# Altium schematic symbol library connector.SchLib: 104 symbols
Pins are listed as number, name and electrical type; pins without a type are passive.

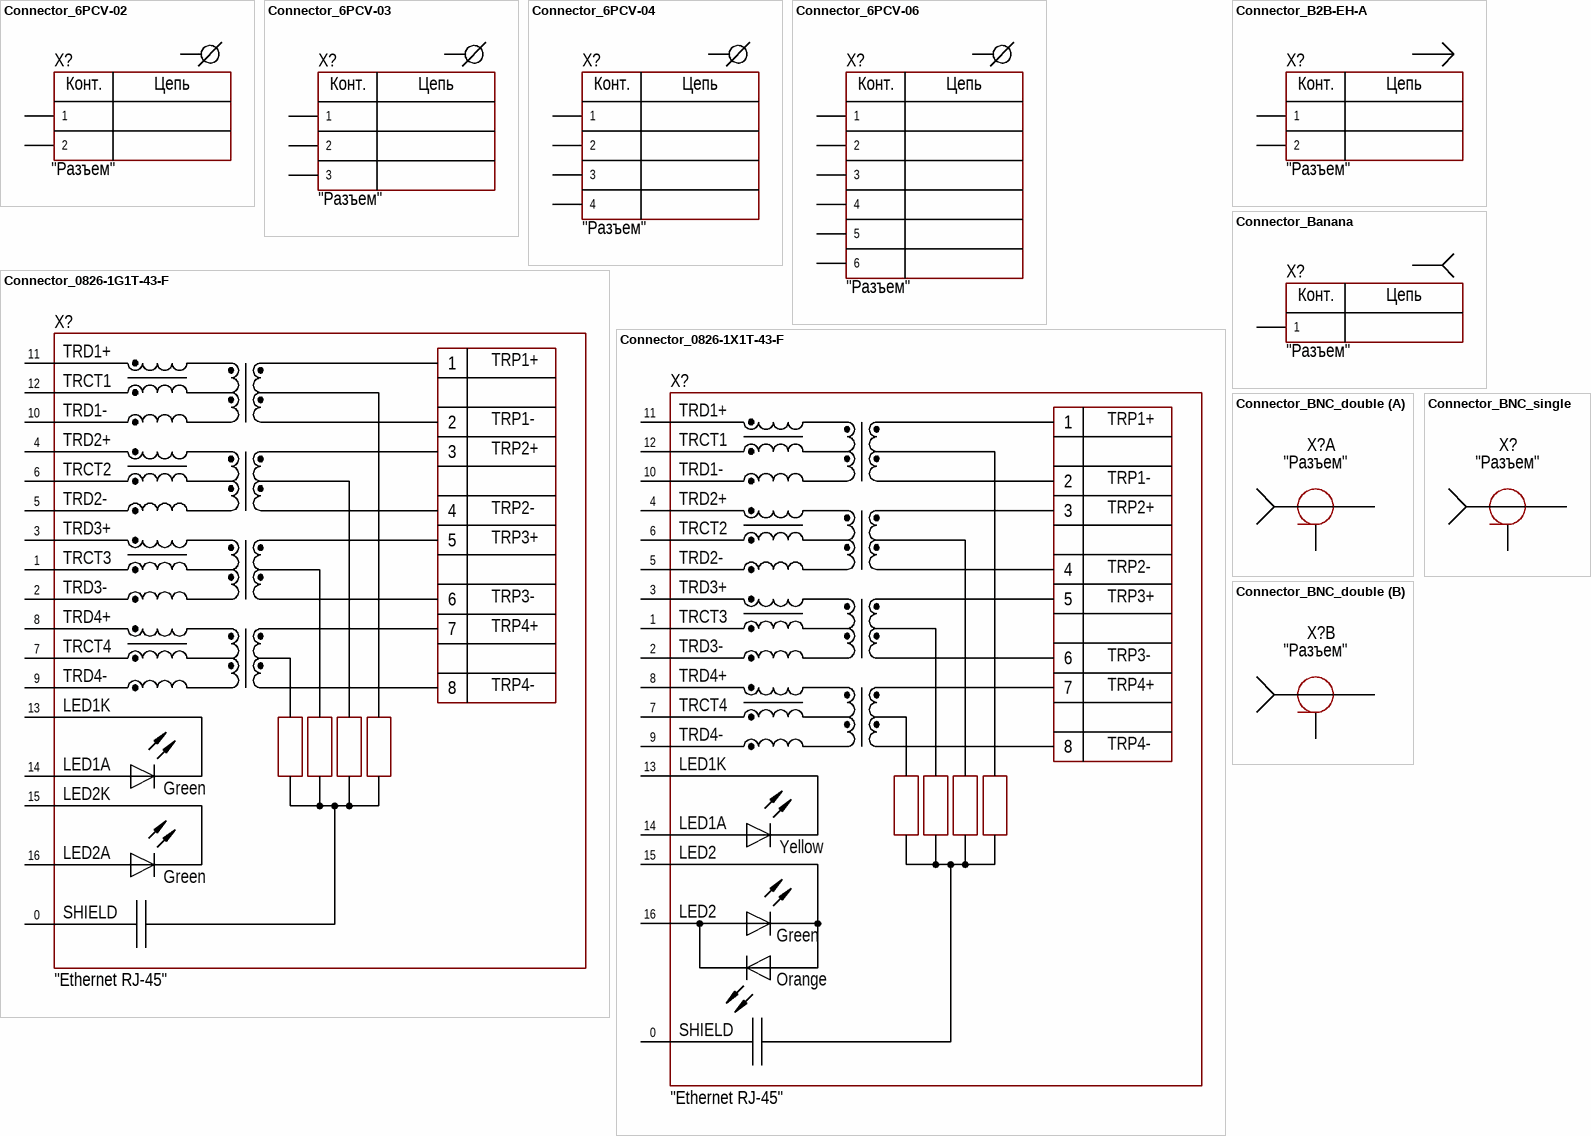
[diagram p0: symbols Connector_6PCV-02 to Connector_BNC_single]

## Connector_6PCV-02
designator X?  CommentText: "Разъем"
Manufacturer: TE Connectivity; ValueManufacturerPartNumber: Connector, 2pin, 9.53mm, 300VAC, 25A; PartNumber: 6PCV-02-006; TypeConnector: Connector; VoltageMax: 300VAC; Pitch: 9.53mm; CurrentMax: 25A; Multichannel: 2pin; HelpURL: https://www.digikey.com/products/en?keywords=6PCV-02-006
footprint CON: 6PCV-02-006
pins: 1, 2
text: Конт.; Цепь

## Connector_6PCV-03
designator X?  CommentText: "Разъем"
Manufacturer: TE Connectivity; ValueManufacturerPartNumber: Connector, 3pin, 9.53mm, 300VAC, 25A; PartNumber: 6PCV-03-006; TypeConnector: Connector; VoltageMax: 300VAC; Pitch: 9.53mm; CurrentMax: 25A; Multichannel: 3pin; HelpURL: https://www.digikey.com/products/en?keywords=6PCV-03-006
footprint CON: 6PCV-03-006
pins: 1, 2, 3 (power)
text: Конт.; Цепь

## Connector_6PCV-04
designator X?  CommentText: "Разъем"
Manufacturer: TE Connectivity; ValueManufacturerPartNumber: Connector, 4pin, 9.53mm, 300VAC, 25A; PartNumber: 6PCV-04-006; TypeConnector: Connector; VoltageMax: 300VAC; Pitch: 9.53mm; CurrentMax: 25A; Multichannel: 4pin; HelpURL: https://www.digikey.com/products/en?keywords=6PCV-03-006
footprint CON: 6PCV-04-006
pins: 1, 2, 3 (power), 4 (power)
text: Конт.; Цепь

## Connector_6PCV-06
designator X?  CommentText: "Разъем"
Manufacturer: TE Connectivity; ValueManufacturerPartNumber: Connector, 6pin, 9.53mm, 300VAC, 25A; PartNumber: 6PCV-06-006; TypeConnector: Connector; VoltageMax: 300VAC; Pitch: 9.53mm; CurrentMax: 25A; Multichannel: 6pin; HelpURL: https://www.digikey.com/product-detail/en/te-connectivity-amp-connectors/6PCV-06-006/A98485-ND/1277937
footprint CON: 6PCV-06-006
pins: 1, 2, 3 (power), 4 (power), 5 (power), 6 (power)
text: Конт.; Цепь

## Connector_0826-1G1T-43-F
designator X?  CommentText: "Ethernet RJ-45"
Manufacturer: Bel; ValueManufacturerPartNumber: Etherner RJ-45 connector; PartNumber: 0826-1G1T-43-F; FunctionalAnalog: LPJK0036AWNL; HelpURL: https://eu.mouser.com/ProductDetail/Bel-Magnetic-Solutions/0826-1G1T-43-F?qs=5aG0NVq1C4xChU%2FEu3jD0g%3D%3D; TypeConnector: Etherner RJ-45 connector
footprint RJ45_BEL_0826-1G1T-43-F (1 Port, Green/Green LEDs, RJ45 10/100/1000 Gigabit Ethernet, MagJack Connector Module)
pins: 0 SHIELD (power), 1 TRCT3, 2 TRD3-, 3 TRD3+, 4 TRD2+, 5 TRD2-, 6 TRCT2, 7 TRCT4, 8 TRD4+, 9 TRD4-, 10 TRD1-, 11 TRD1+, 12 TRCT1, 13 LED1K, 14 LED1A, 15 LED2K, 16 LED2A
text: TRP1+; TRP1-; TRP2+; TRP2-; TRP3+; TRP3-; TRP4+; TRP4-; Green

## Connector_0826-1X1T-43-F
designator X?  CommentText: "Ethernet RJ-45"
Manufacturer: Bel; ValueManufacturerPartNumber: Etherner RJ-45 connector; PartNumber: 0826-1X1T-43-F; FunctionalAnalog: LPJK0036AONL; HelpURL: https://eu.mouser.com/ProductDetail/Bel-Magnetic-Solutions/0826-1X1T-43-F?qs=SRYZG9HaIQ1dosA3DyU8HQ%3D%3D; TypeConnector: Etherner RJ-45 connector
footprint RJ45_BEL_0826-1G1T-43-F (1 Port, Green/Green LEDs, RJ45 10/100/1000 Gigabit Ethernet, MagJack Connector Module)
pins: 0 SHIELD (power), 1 TRCT3, 2 TRD3-, 3 TRD3+, 4 TRD2+, 5 TRD2-, 6 TRCT2, 7 TRCT4, 8 TRD4+, 9 TRD4-, 10 TRD1-, 11 TRD1+, 12 TRCT1, 13 LED1K, 14 LED1A, 15 LED2, 16 LED2
text: TRP1+; TRP1-; TRP2+; TRP2-; TRP3+; TRP3-; TRP4+; TRP4-; Yellow; Green; Orange

## Connector_B2B-EH-A
designator X?  CommentText: "Разъем"
Manufacturer: JST; ValueManufacturerPartNumber: Connector, 2pin, 2.5 mm, 250V, 3A; PartNumber: B2B-EH-A; TypeConnector: Connector; VoltageMax: 250V; Pitch: 2.5 mm; CurrentMax: 3A; Multichannel: 2pin; HelpURL: https://www.digikey.com/product-detail/en/jst-sales-america-inc/B2B-EH-A-LF-SN/455-1611-ND/926520
footprint CON: B2B-EH-A
pins: 1, 2
text: Конт.; Цепь

## Connector_Banana
designator X?  CommentText: "Разъем"
Manufacturer: CLIFF; ValueManufacturerPartNumber: Connector, 4mm, Black, 1kV, 24A; PartNumber: FCR7350B; TypeConnector: Connector; VoltageMax: 1kV; CurrentMax: 24A; HelpURL: https://www.cliffuk.co.uk/products/testleads/sockets/fcr7350.pdf; Colour: Black; Diameter: 4mm
footprint CLIFF_FCR7350B (CLIFF Black Insulated Ш 4mm Angled Socket S16N-PC For Banana 4mm)
footprint CLIFF_FCR7350R (CLIFF Red Insulated Ш 4mm Angled Socket S16N-PC For Banana 4mm)
footprint MULTI-CONTACT_23.3200-21 (MULTI-CONTACT Black Insulated Ш 4mm Angled Socket SLB4-I/90 For Banana 4mm)
footprint MULTI-CONTACT_23.3200-22 (Multi-Contact Red Insulated Ш 4mm Angled Socket SLB4-I/90 For Banana 4mm)
footprint SCHUETZINGER_SWEB 8094 Au - BL (Blue Insulated Ш 4mm Angled Socket For Banana 4mm)
footprint SCHUETZINGER_SWEB 8094 Au - RT (Red Insulated Ш 4mm Angled Socket For Banana 4mm)
footprint SCHUETZINGER_SWEB 8094 Au - SW (Black Insulated Ш 4mm Angled Socket For Banana 4mm)
pins: 1
text: Конт.; Цепь

## Connector_BNC_double
designator X?  CommentText: "Разъем"
Manufacturer: Amphenol; ValueManufacturerPartNumber: BNC Double Jack (Socket) connector, 50 Ohms, 1GHz; PartNumber: 031-6575; TypeConnector: BNC Double Jack (Socket) connector; Frequency: 1GHz; Impedance: 50 Ohms; HelpURL: https://www.mouser.com/ProductDetail/Amphenol-RF/031-6575?qs=y2kkmE52mdPXgCJnw9jEhw%3D%3D
footprint BNC_AMPHENOL_031-6575 (Dual Port  Right Angle 50 Ohms Isolated BNC Receptacle (Jack))
part A pins: 1, 2
part B pins: 3, 4

## Connector_BNC_single
designator X?  CommentText: "Разъем"
Manufacturer: TE Connectivity; ValueManufacturerPartNumber: BNC Jack (Socket) connector, 50 Ohms, 4GHz; PartNumber: 1-1337542-0; TypeConnector: BNC Jack (Socket) connector; Frequency: 4GHz; Impedance: 50 Ohms; HelpURL: https://www.mouser.com/ProductDetail/TE-Connectivity/1-1337542-0?qs=sXy4Dx%2FMQpMocRviGTeswA%3D%3D
footprint BNC_AMPHENOL_31-5329 (50 Ohm BNC PCB Receptacle (Jack), Post Terminal, 3 Legs)
footprint BNC_AMPHENOL_34-1030-12G (75 Ohm HD-BNC Through Hole Right Angle PCB Jack)
footprint BNC_AMPHENOL_B6251F1-NT3G-75 (75 Ohm HD-BNC Through Hole Straight PCB Jack)
footprint BNC_TYCO_1-1337541-0 (50 Ohms  BNC Elbow PCB Socket With Mounting Posts)
footprint BNC_TYCO_1-1337542-0 (50 Ohms  BNC Elbow PCB Socket With Mounting Posts)
footprint BNC_TYCO_5-1634503-1 (Low Profile Straight 50 Ohm BNC PCB Socket)
footprint BNC_TYCO_5-1634506-1 (50 Ohm BNC PCB Receptacle (Jack), Post Terminal, 4 Legs)
footprint BNC_TYCO_5-1634513-1 (Low Profile Elbow 50 Ohm BNC PCB Socket)
footprint BNC_TYCO_5-1634556-0 (Right Angle Bulkhead 75 Ohms BNC)
footprint BNC_TYCO_5227222-3 (50 Ohms , BNC Vertical Socket)
footprint BNC_TYCO_5227673-1 (50 Ohms , BNC Vertical Socket)
pins: 1, 2

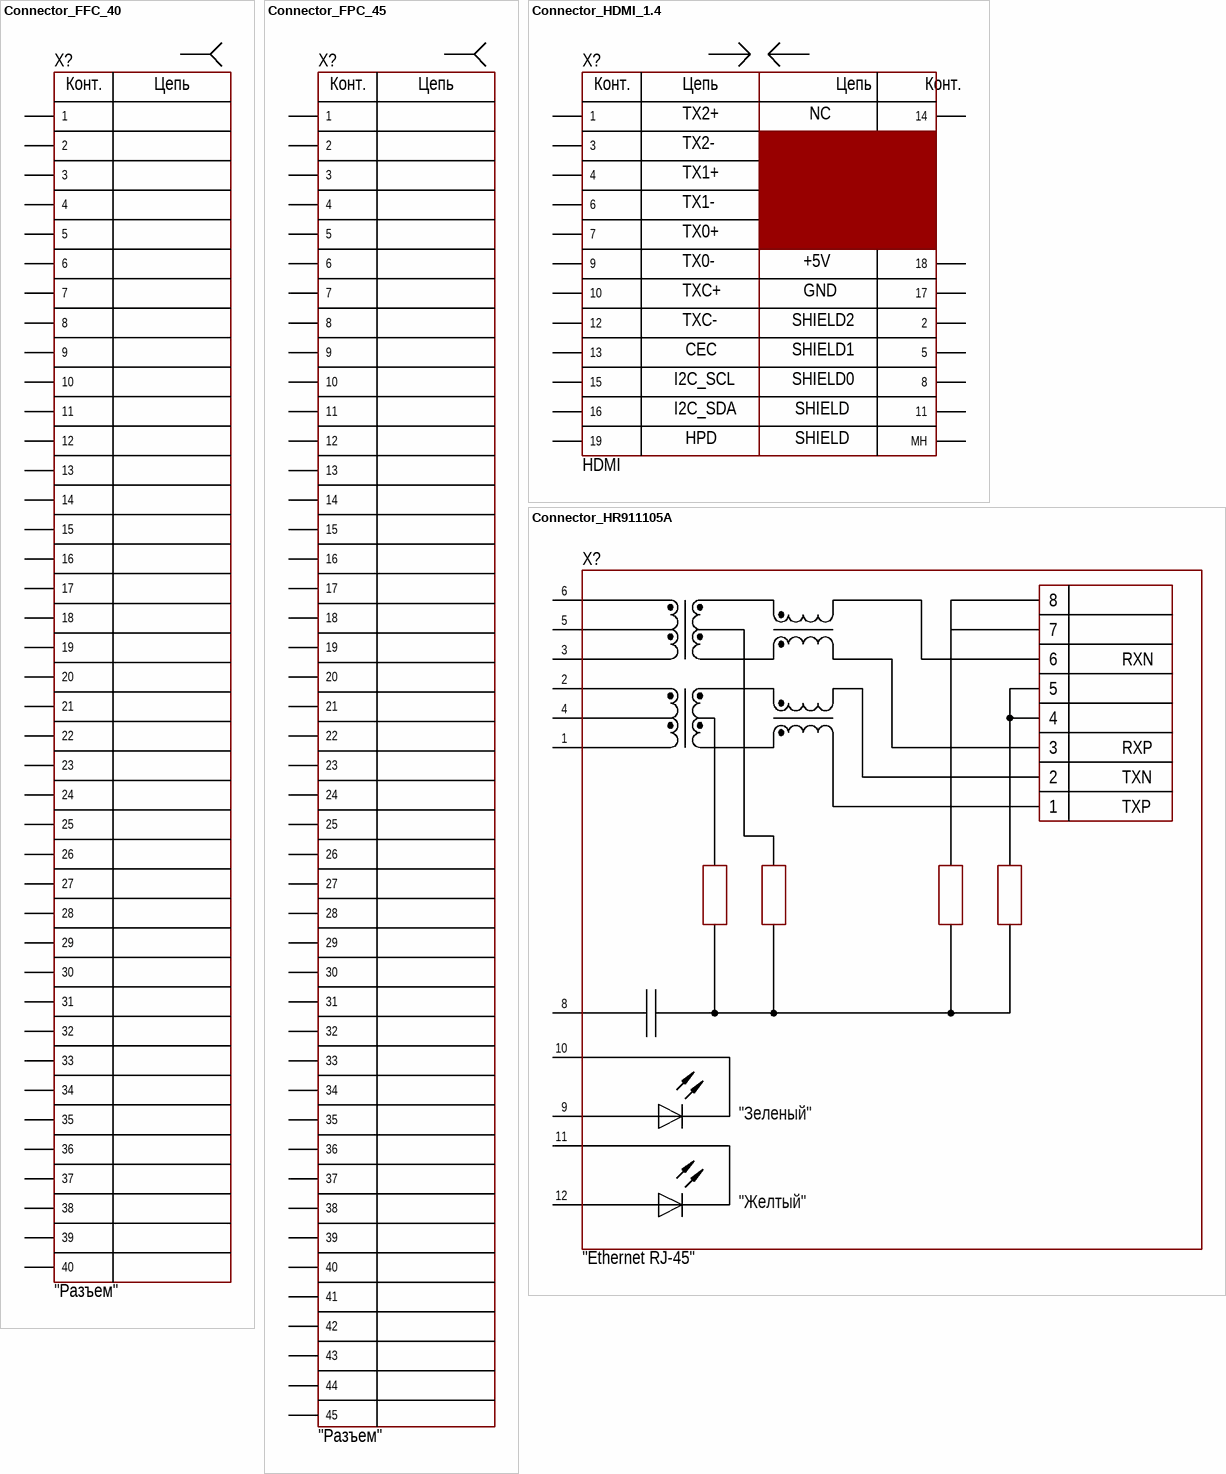
[diagram p1: symbols Connector_FFC_40 to Connector_HR911105A]

## Connector_FFC_40
designator X?  CommentText: "Разъем"
Manufacturer: JUSHUO; ValueManufacturerPartNumber: Connector, 40pin, 0.5mm, FFC/FPC, Top contact; PartNumber: AFC07-S40ECC-00; TypeConnector: Connector; VoltageMax: FFC/FPC; Pitch: 0.5mm; CurrentMax: Top contact; Multichannel: 40pin; HelpURL: https://lcsc.com/product-detail/FFC-FPC-Connectors_JUSHUO-AFC07-S40ECC-00_C11097.html
footprint CON: FFC/FPC-40-0.5
pins: 1, 2, 3, 4, 5, 6, 7, 8, 9, 10, 11, 12, 13, 14, 15, 16, 17, 18, 19, 20, 21, 22, 23, 24, 25, 26, 27, 28, 29, 30, 31, 32, 33, 34, 35, 36, 37, 38, 39, 40
text: Конт.; Цепь

## Connector_FPC_45
designator X?  CommentText: "Разъем"
Manufacturer: HIROSE; ValueManufacturerPartNumber: FPC/FFC, 45pin, 0.3mm; PartNumber: FH35C-45S-0.3SHW(50); TypeConnector: FPC/FFC; Pitch: 0.3mm; Multichannel: 45pin; HelpURL: https://www.hirose.com/product/p/CL0580-2909-6-50?lang=en
footprint CON: FH35C-45S-0.3SHW(FPC-45)
pins: 1, 2, 3, 4, 5, 6, 7, 8, 9, 10, 11, 12, 13, 14, 15, 16, 17, 18, 19, 20, 21, 22, 23, 24, 25, 26, 27, 28, 29, 30, 31, 32, 33, 34, 35, 36, 37, 38, 39, 40, 41, 42, 43, 44, 45
text: Конт.; Цепь

## Connector_HDMI_1.4
designator X?  CommentText: HDMI
Manufacturer: Amphenol; ValueManufacturerPartNumber: HDMI 1.4; PartNumber: 10029449-111RLF; HelpURL: https://www.digikey.com/en/products/detail/amphenol-icc-fci/10029449-111RLF/2785386; TypeConnector: HDMI 1.4
footprint HDMI_A_AMP_10029449-111RLF (HDMI 1.4, Amphenol)
pins: 1, 2, 3, 4, 5, 6, 7, 8, 9, 10, 11, 12, 13, 14, 15, 16, 17, 18, 19, MH
text: Конт.; Цепь; TX2+; NC; TX2-; TX1+; TX1-; TX0+; TX0-; +5V; TXC+; GND; TXC-; SHIELD2; CEC; SHIELD1; I2C_SCL; SHIELD0; I2C_SDA; SHIELD; HPD

## Connector_HR911105A
designator X?  CommentText: "Ethernet RJ-45"
Manufacturer: Hanrun; ValueManufacturerPartNumber: Etherner RJ-45 connector; PartNumber: HR911105A; HelpURL: https://ru.aliexpress.com/item/32244614847.html?spm=a2g0v.search0104.3.9.304d24e7qb4B5g&ws_ab_test=searchweb0_0%2Csearchweb201602_10_10065_10068_319_317_10696_453_10084_454_10083_10618_10307_10301_537_536_10059_10884_10887_321_322_10915_10103_10914_10911_10910%2Csearchweb201603_52%2CppcSwitch_0&algo_expid=ad591376-da58-472d-83c6-21bacd43ef2b-1&algo_pvid=ad591376-da58-472d-83c6-21bacd43ef2b&transAbTest=ae803_5; TypeConnector: Etherner RJ-45 connector
footprint CON: HR911105A
pins: 1 TD+, 2 TD-, 3 RD+, 4 CT, 5 CT, 6 RD-, 8 GND, 9 D2, 10 D1, 11 D3, 12 D4
text: 7; RXN; RXP; TXN; TXP; "Зеленый"; "Желтый"

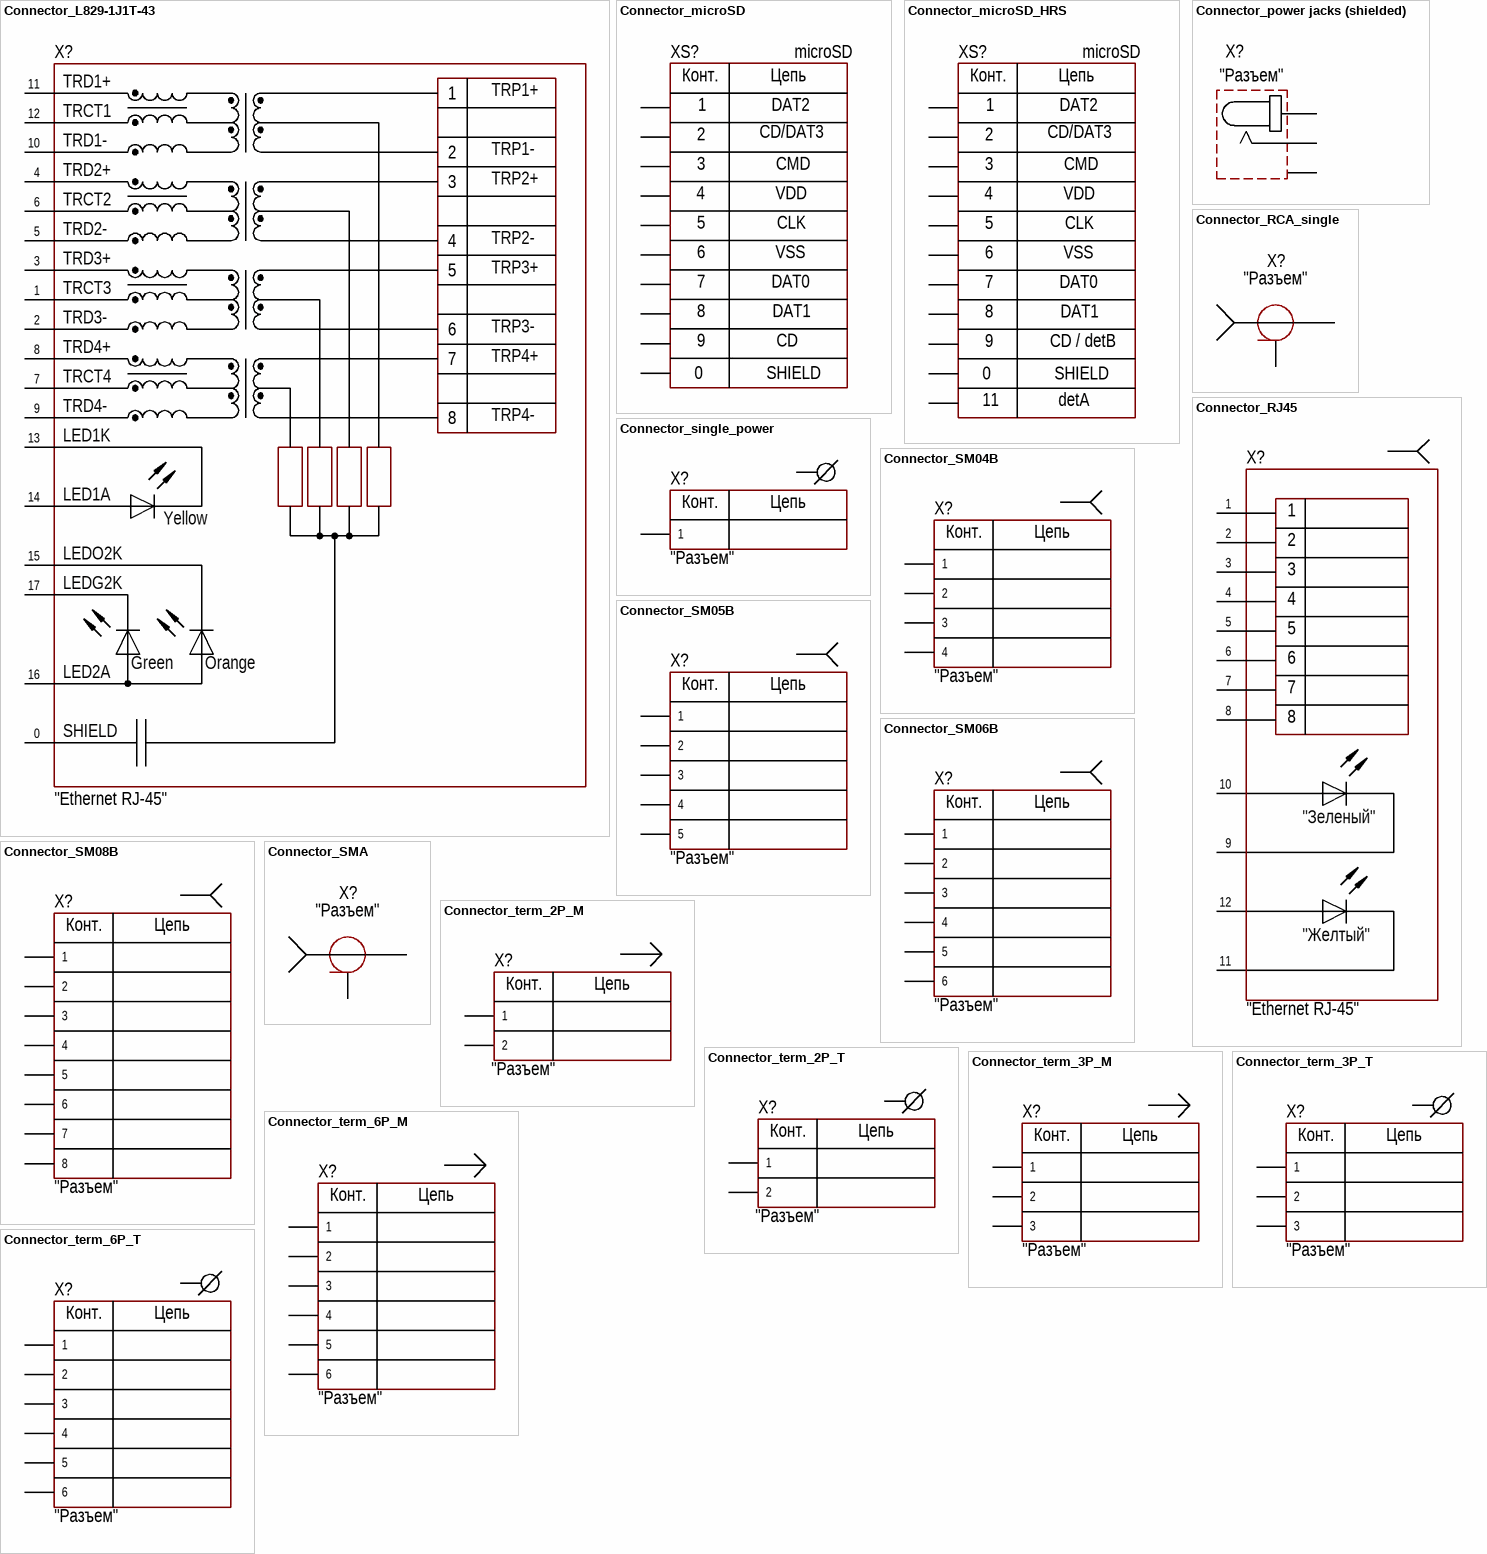
[diagram p2: symbols Connector_L829-1J1T-43 to Connector_term_6P_T]

## Connector_L829-1J1T-43
designator X?  CommentText: "Ethernet RJ-45"
Manufacturer: Bel; ValueManufacturerPartNumber: Etherner RJ-45 connector; PartNumber: L829-1J1T-43; FunctionalAnalog: LPJK7036A98NL; HelpURL: https://eu.mouser.com/ProductDetail/Bel-Magnetic-Solutions/L829-1J1T-43?qs=FESYatJ8odLVQdREzuXXBw%3D%3D; TypeConnector: Etherner RJ-45 connector
footprint RJ45_BEL_L829-1J1T-43 (1 Port, Yellow/Green-Orange LEDs, Gigabit Ethernet, MagJack Connector Module)
pins: 0 SHIELD (power), 1 TRCT3, 2 TRD3-, 3 TRD3+, 4 TRD2+, 5 TRD2-, 6 TRCT2, 7 TRCT4, 8 TRD4+, 9 TRD4-, 10 TRD1-, 11 TRD1+, 12 TRCT1, 13 LED1K, 14 LED1A, 15 LEDO2K, 16 LED2A, 17 LEDG2K
text: TRP1+; TRP1-; TRP2+; TRP2-; TRP3+; TRP3-; TRP4+; TRP4-; Yellow; Green; Orange

## Connector_microSD
designator XS?  CommentText: microSD
ValueManufacturerPartNumber: MicroSD; TypeConnector: MicroSD
footprint CON:MICROSD:HYC77TF09200
pins: 0 SHIELD, 1 DAT2, 2 CD/DAT3, 3 CMD, 4 VDD, 5 CLK, 6 VSS, 7 DAT0, 8 DAT1, 9 CD
text: Конт.; Цепь

## Connector_microSD_HRS
designator XS?  CommentText: microSD
Manufacturer: Hirose; PartNumber: DM3AT-SF-PEJM5; TypeConnector: MicroSD
footprint CON:MICROSD:DM3AT-SF-PEJM5; pin to pad 0>SH 9>detB 11>detA
pins: 0 SHIELD, 1 DAT2, 2 CD/DAT3, 3 CMD, 4 VDD, 5 CLK, 6 VSS, 7 DAT0, 8 DAT1, 9 CD, 11 SHIELD
text: Конт.; Цепь; CD / detB; detA

## Connector_power jacks (shielded)
designator X?  CommentText: "Разъем"
Manufacturer: CUI Devices; ValueManufacturerPartNumber: Connector jack, 8A, 24V, 2.50mm ID (0.098"), 5.50mm OD (0.217"); PartNumber: PJ-063BH; TypeConnector: Connector jack; Current: 8A; Voltage: 24V; HelpURL: https://www.digikey.com/en/products/detail/cui-devices/PJ-063BH/2161209?s=N4IgTCBcDaIAoCkC0AGAbAZgEIAkQF0BfIA; Diameter: 2.50mm ID (0.098"), 5.50mm OD (0.217")
footprint PG_CUI_PJ-063
pins: 0, 1, 2

## Connector_RCA_single
designator X?  CommentText: "Разъем"
RCA jack; Manufacturer: Aec Connectors; PartNumber: RJ-203GG-TEF; Impedance: 75 Ohm; HelpURL: https://www.aecconnectors.com.tw/en/product-33918/RCA-JACKS-RJ-203GG-TEF.html; ValueManufacturerPartNumber: =TypeConnector+', '+Impedance+', '+Frequency; TypeConnector: RCA jack
footprint RCA_AEC_RJ-203
footprint RCA_AEC_RJ-255BKPLG
pins: 1, 2

## Connector_RJ45
designator X?  CommentText: "Ethernet RJ-45"
Manufacturer: Wurth; ValueManufacturerPartNumber: Etherner RJ-45 connector; PartNumber: 615008137421; AnalogComponent: DS1128-09-S8B8S (Connfly); HelpURL: https://www.digikey.com/product-detail/en/w-rth-elektronik/615008137421/732-2112-ND/2060608; TypeConnector: Etherner RJ-45 connector
footprint CON: RJ-45 (615008137421 / DS1128-09-S8B8S)
pins: 1 D2, 2 D2, 3 D2, 4 D2, 5 D2, 6 D2, 7 D2, 8 D2, 9 D2, 10 D1, 11 D3, 12 D4
text: "Зеленый"; "Желтый"

## Connector_single_power
designator X?  CommentText: "Разъем"
ValueManufacturerPartNumber: Power connector, *, *; TypeConnector: Power connector; Manufacturer: *; HelpURL: *; PartNumber: *; VoltageMax: *; CurrentMax: *
footprint CON: 7781
footprint CON: 8191
footprint CON: 7461057
footprint CON: 7461097
footprint CON: 7466005R
footprint CON: TH 1mm
footprint CON: TH 2mm
footprint CON: TH 3.5mm
footprint CON: Tyco 62650-1
pins: 1
text: Конт.; Цепь

## Connector_SM04B
designator X?  CommentText: "Разъем"
Manufacturer: JST; ValueManufacturerPartNumber: Connector, 4pin, 1.25mm, 50VDC, 1A; PartNumber: SM04B-GHS; TypeConnector: Connector; VoltageMax: 50VDC; Pitch: 1.25mm; CurrentMax: 1A; Multichannel: 4pin; HelpURL: https://www.digikey.com/product-detail/en/jst-sales-america-inc/SM04B-GHS-TB-LF-SN/455-1566-1-ND/807834
footprint CON: SM04B-GHS
pins: 1, 2, 3 (power), 4 (power)
text: Конт.; Цепь

## Connector_SM05B
designator X?  CommentText: "Разъем"
Manufacturer: JST; ValueManufacturerPartNumber: Connector, 5pin, 1.25mm, 50VDC, 1A; PartNumber: SM05B-GHS; TypeConnector: Connector; VoltageMax: 50VDC; Pitch: 1.25mm; CurrentMax: 1A; Multichannel: 5pin; HelpURL: https://www.digikey.com/product-detail/en/jst-sales-america-inc/SM05B-GHS-TB-LF-SN/455-1567-1-ND/807835
footprint CON: SM05B-GHS
pins: 1, 2, 3 (power), 4 (power), 5 (power)
text: Конт.; Цепь

## Connector_SM06B
designator X?  CommentText: "Разъем"
Manufacturer: JST; ValueManufacturerPartNumber: Connector, 6pin, 1.25mm, 50VDC, 1A; PartNumber: SM06B-GHS; TypeConnector: Connector; VoltageMax: 50VDC; Pitch: 1.25mm; CurrentMax: 1A; Multichannel: 6pin; HelpURL: https://www.digikey.com/product-detail/en/jst-sales-america-inc/SM06B-GHS-TB-LF-SN/455-1568-1-ND/807836
footprint CON: SM06B-GHS
pins: 1, 2, 3 (power), 4 (power), 5 (power), 6 (power)
text: Конт.; Цепь

## Connector_SM08B
designator X?  CommentText: "Разъем"
Manufacturer: JST; ValueManufacturerPartNumber: Connector, 6pin, 1.25mm, 50VDC, 1A; PartNumber: SM08B-GHS; TypeConnector: Connector; VoltageMax: 50VDC; Pitch: 1.25mm; CurrentMax: 1A; Multichannel: 6pin; HelpURL: https://www.digikey.com/en/products/detail/jst-sales-america-inc/SM08B-GHS-TB-LF-SN/807792
footprint CON: SM08B-GHS
pins: 1, 2, 3 (power), 4 (power), 5 (power), 6 (power), 7 (power), 8 (power)
text: Конт.; Цепь

## Connector_SMA
designator X?  CommentText: "Разъем"
Manufacturer: TE Connectivity; ValueManufacturerPartNumber: Connector SMA, 50 Ohm, 3GHz; PartNumber: 5-1814832-1; TypeConnector: Connector SMA; Frequency: 3GHz; Impedance: 50 Ohm; HelpURL: https://www.digikey.com/product-detail/en/te-connectivity-amp-connectors/5-1814832-1/A97594-ND/1755982
footprint CON: SMA
pins: 1, 2

## Connector_term_2P_M
designator X?  CommentText: "Разъем"
Manufacturer: Degson; ValueManufacturerPartNumber: Terminal connector, 2pin, 3.5mm, 300VAC, 10A; PartNumber: DG350-3.5-02P-14; TypeConnector: Terminal connector; VoltageMax: 300VAC; Pitch: 3.5mm; CurrentMax: 10A; Multichannel: 2pin; HelpURL: https://www.chipdip.ru/product/dg350-3.5-02p-12
footprint CON: KLS2 (or 691311500002)
footprint CON: 15EDGRC-3.5-02 (or 691322110002) (Horizontal PCB Header, pitch 3.5mm, 02p)
footprint CON: 15EDGVC-3.5-02 (or 691321100002) (Vertical PCB Header, pitch 3.5mm, 02p)
footprint CON: 691313710002
footprint CON: 691322310002
footprint 2EHDRC-02P (or 691313510002) (5,08mm - PCB Headers - Horizontal - Closed ends - 02p)
pins: 1, 2
text: Конт.; Цепь

## Connector_term_2P_T
designator X?  CommentText: "Разъем"
Manufacturer: Degson; ValueManufacturerPartNumber: Terminal connector, 2pin, 3.5mm, 300VAC, 10A; PartNumber: DG350-3.5-02P-14; TypeConnector: Terminal connector; VoltageMax: 300VAC; Pitch: 3.5mm; CurrentMax: 10A; Multichannel: 2pin; HelpURL: https://www.chipdip.ru/product/dg350-3.5-02p-12
footprint CON: DG350-3.5-02P
footprint CON: DG950-9.5-02P
pins: 1, 2
text: Конт.; Цепь

## Connector_term_3P_M
designator X?  CommentText: "Разъем"
Manufacturer: Degson; ValueManufacturerPartNumber: Terminal connector, 3pin, 3.5mm, 300VAC, 10A; PartNumber: DG350-3.5-03P-14; TypeConnector: Terminal connector; VoltageMax: 300VAC; Pitch: 3.5mm; CurrentMax: 10A; Multichannel: 3pin; HelpURL: https://www.chipdip.ru/product/dg350-3.5-03p-12
footprint CON: 15EDGRC-3.5-03 (or 691322110003) (Horizontal PCB Header, pitch 3.5mm, 03p)
footprint CON: 15EDGVC-3.5-03 (or 691321100003) (Vertical PCB Header, pitch 3.5mm, 03p)
footprint 2EHDRC-03P (or 691313510003) (5,08mm - PCB Headers - Horizontal - Closed ends - 03p)
pins: 1, 2, 3 (power)
text: Конт.; Цепь

## Connector_term_3P_T
designator X?  CommentText: "Разъем"
Manufacturer: Degson; ValueManufacturerPartNumber: Terminal connector, 3pin, 3.5mm, 300VAC, 10A; PartNumber: DG350-3.5-03P-14; TypeConnector: Terminal connector; VoltageMax: 300VAC; Pitch: 3.5mm; CurrentMax: 10A; Multichannel: 3pin; HelpURL: https://www.chipdip.ru/product/dg350-3.5-03p-12
footprint CON: DG350-3.5-03P
pins: 1, 2, 3 (power)
text: Конт.; Цепь

## Connector_term_6P_M
designator X?  CommentText: "Разъем"
Manufacturer: Degson; ValueManufacturerPartNumber: Terminal connector, 6pin, 3.5mm, 300VAC, 10A; PartNumber: DG350-3.5-06P-14; TypeConnector: Terminal connector; VoltageMax: 300VAC; Pitch: 3.5mm; CurrentMax: 10A; Multichannel: 6pin; HelpURL: https://www.compel.ru/infosheet/DEGSON/DG350-3.5-06P-14-00AH
footprint CON: 15EDGRC-3.5-06 (or 691322110006) (Horizontal PCB Header, pitch 3.5mm, 06p)
footprint CON: 15EDGVC-3.5-06 (or 691321100006) (Vertical PCB Header, pitch 3.5mm, 06p)
footprint 2EHDRC-06P (or 691313510006) (5,08mm - PCB Headers - Horizontal - Closed ends - 06p)
pins: 1, 2, 3 (power), 4 (power), 5 (power), 6 (power)
text: Конт.; Цепь

## Connector_term_6P_T
designator X?  CommentText: "Разъем"
Manufacturer: Degson; ValueManufacturerPartNumber: Terminal connector, 6pin, 3.5mm, 300VAC, 10A; PartNumber: DG350-3.5-06P-14; TypeConnector: Terminal connector; VoltageMax: 300VAC; Pitch: 3.5mm; CurrentMax: 10A; Multichannel: 6pin; HelpURL: https://www.compel.ru/infosheet/DEGSON/DG350-3.5-06P-14-00AH
footprint CON: DG350-3.5-06P
pins: 1, 2, 3 (power), 4 (power), 5 (power), 6 (power)
text: Конт.; Цепь

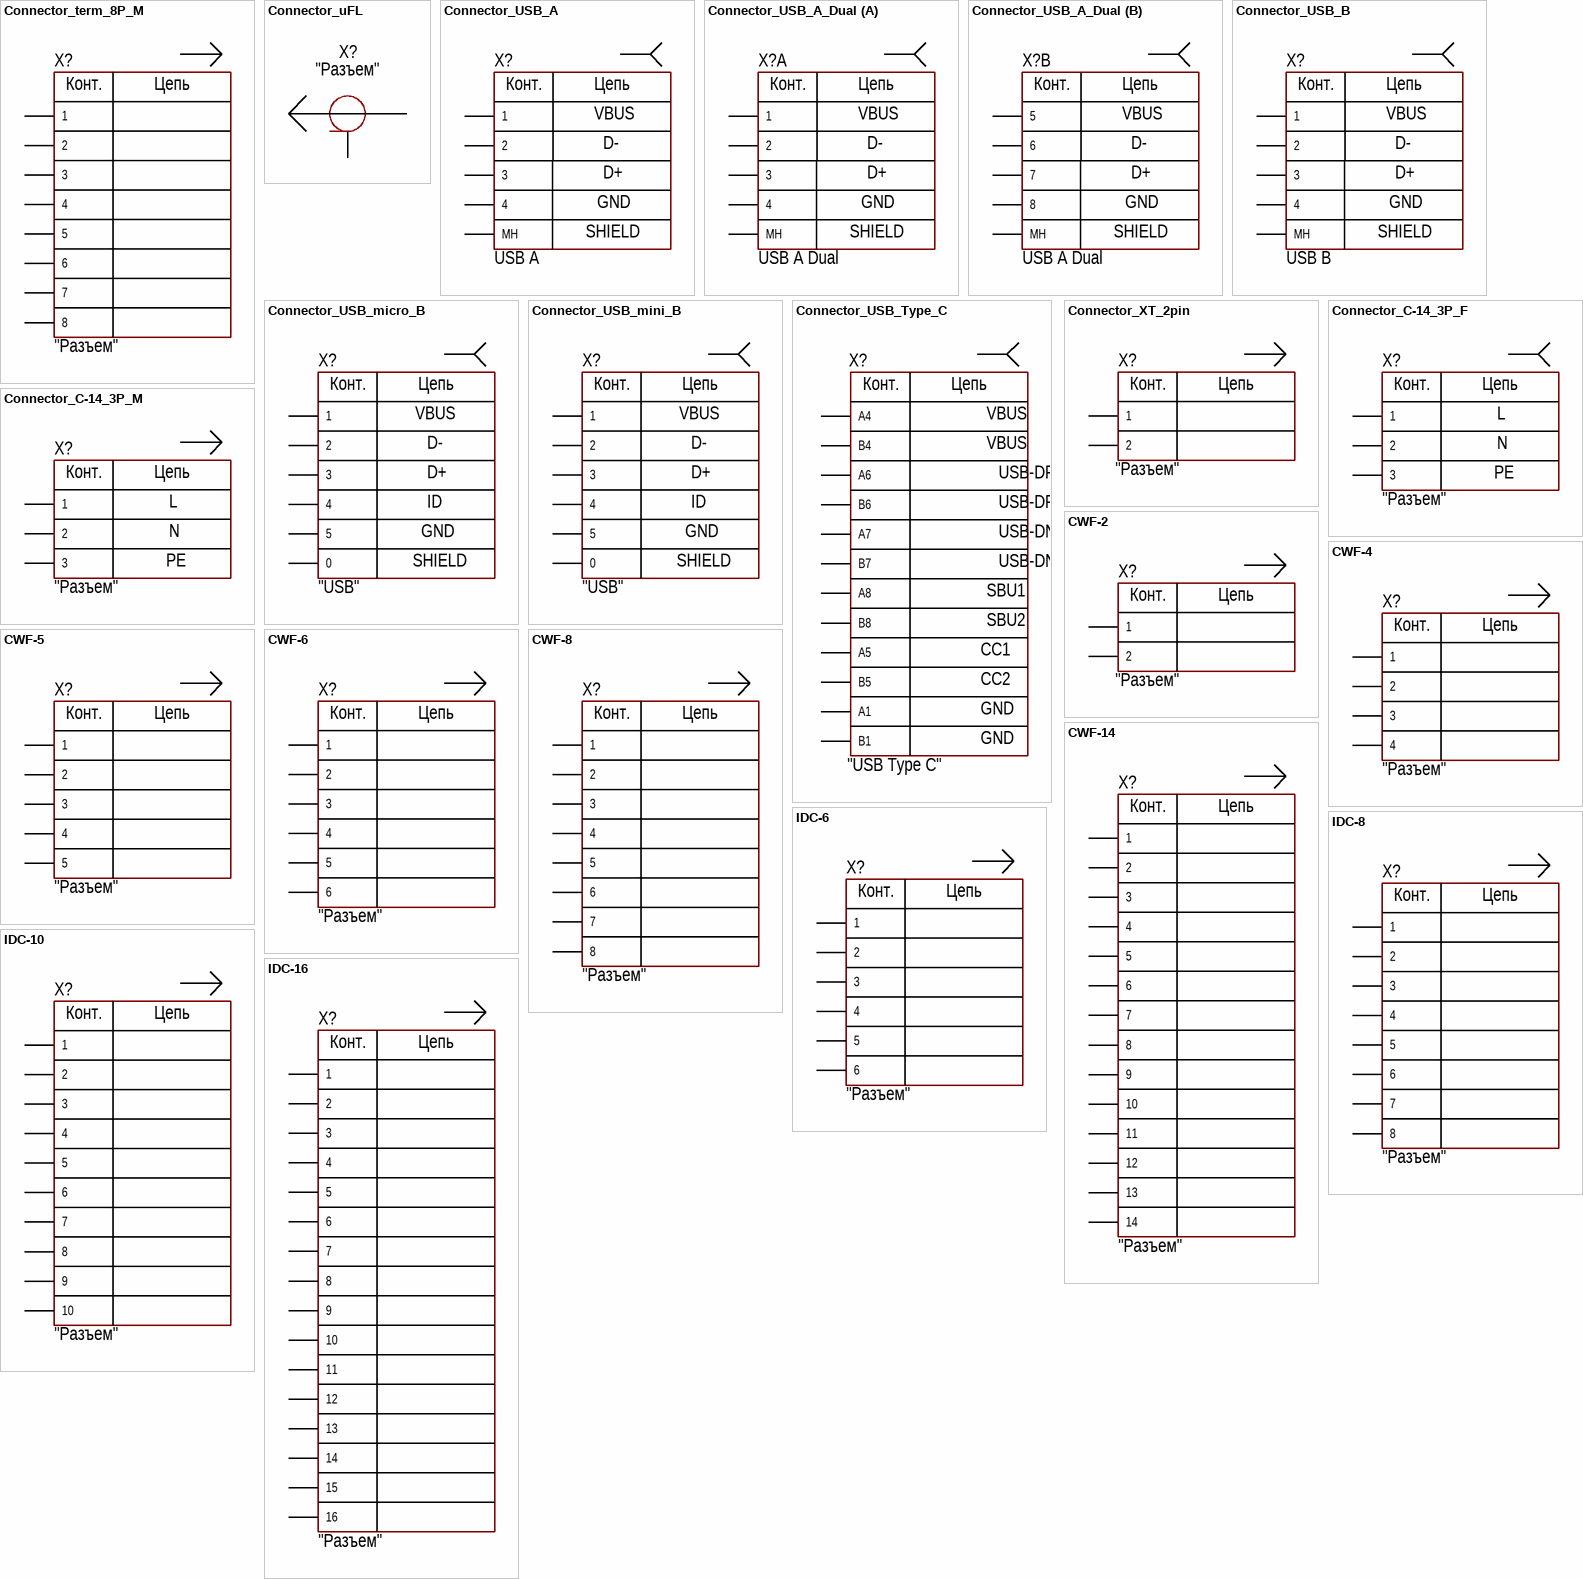
[diagram p3: symbols Connector_term_8P_M to IDC-16]

## Connector_term_8P_M
designator X?  CommentText: "Разъем"
Manufacturer: Degson; ValueManufacturerPartNumber: Terminal connector, 6pin, 3.5mm, 300VAC, 10A; PartNumber: DG350-3.5-08P-14; TypeConnector: Terminal connector; VoltageMax: 300VAC; Pitch: 3.5mm; CurrentMax: 10A; Multichannel: 6pin; HelpURL: https://www.compel.ru/infosheet/DEGSON/DG350-3.5-08P-14-00AH
footprint CON: 15EDGRC-3.5-08 (or 691322110008) (Horizontal PCB Header, pitch 3.5mm, 08p)
footprint CON: 15EDGVC-3.5-08 (or 691321100008) (Vertical PCB Header, pitch 3.5mm, 08p)
footprint 2EHDRC-08P (or 691313510008) (5,08mm - PCB Headers - Horizontal - Closed ends - 08p)
pins: 1, 2, 3 (power), 4 (power), 5 (power), 6 (power), 7 (power), 8 (power)
text: Конт.; Цепь

## Connector_uFL
designator X?  CommentText: "Разъем"
Manufacturer: Hirose Electric; ValueManufacturerPartNumber: Connector u.FL, 50 Ohm, 6GHz; PartNumber: U.FL-R-SMT(01); TypeConnector: Connector u.FL; Frequency: 6GHz; Impedance: 50 Ohm; HelpURL: https://www.digikey.com/product-detail/en/hirose-electric-co-ltd/U.FL-R-SMT-01/H9161-ND/513010
footprint CON: u.Fl
pins: 1, 2

## Connector_USB_A
designator X?  CommentText: USB A
Manufacturer: Wurth Elektronik; PartNumber: 61400416021; FunctionalAnalog: USBA-1J; HelpURL: https://eu.mouser.com/ProductDetail/Wurth-Elektronik/61400416021?qs=rS3zZhy2AQM1ZldAqz%2FFOw%3D%3D; ValueManufacturerPartNumber: USB A; TypeConnector: USB A
footprint USB_WR_61400416021 (USB 2.0 Type A Horizontal)
pins: 0 MH, 1, 2, 3, 4
text: Конт.; Цепь; VBUS; D-; D+; GND; SHIELD

## Connector_USB_A_Dual
designator X?  CommentText: USB A Dual
Manufacturer: Wurth Elektronik; PartNumber: 61400826021; FunctionalAnalog: USBA-2J; HelpURL: https://eu.mouser.com/ProductDetail/Wurth-Elektronik/61400826021?qs=rS3zZhy2AQNRjP3Vs%2FPxTg%3D%3D; ValueManufacturerPartNumber: USB A Dual; TypeConnector: USB A Dual
footprint USB_WR_61400826021 (USB 2.0 Type A Horizontal Dual Stacked); pin to pad 0-1>0 0-2>0
part A pins: 0-2 MH, 1, 2, 3, 4
part B pins: 0-1 MH, 5, 6, 7, 8
part A text: Конт.; Цепь; VBUS; D-; D+; GND; SHIELD
part B text: Конт.; Цепь; VBUS; D-; D+; GND; SHIELD

## Connector_USB_B
designator X?  CommentText: USB B
Manufacturer: Amphenol ICC; PartNumber: 61729-0010BLF; HelpURL: https://www.digikey.com/en/products/detail/amphenol-icc-fci/61729-0010BLF/1001353?s=N4IgTCBcDaIGwEYDsYCcBaADJhmBCAMgGIgC6AvkA; ValueManufacturerPartNumber: USB B; TypeConnector: USB B
footprint CON: 61729-0010BLF (USB-B Receptacle Connector 4 Position Through Hole, Right Angle)
footprint CON: M701-370442 (USB-B Receptacle Connector 4 Position Surface Mount, Right Angle)
pins: 0 MH, 1, 2, 3, 4
text: Конт.; Цепь; VBUS; D-; D+; GND; SHIELD

## Connector_USB_micro_B
designator X?  CommentText: "USB"
Manufacturer: Hirose Electric; ValueManufacturerPartNumber: USB micro B; PartNumber: ZX62-B-5PA; HelpURL: https://www.digikey.com/product-detail/en/hirose-electric-co-ltd/ZX62-B-5PA/H11579CT-ND/1851090; TypeConnector: USB micro B
footprint CON: USB micro-A (ZX62-B-5PA)
pins: 0, 1, 2, 3, 4, 5
text: Конт.; Цепь; VBUS; D-; D+; ID; GND; SHIELD

## Connector_USB_mini_B
designator X?  CommentText: "USB"
Manufacturer: Molex; ValueManufacturerPartNumber: USB mini B; PartNumber: 0675031020; HelpURL: https://www.digikey.com/product-detail/en/molex/0675031020/WM5461CT-ND/1624427; TypeConnector: USB mini B
footprint CON: 0675031020
pins: 0, 1, 2, 3, 4, 5
text: Конт.; Цепь; VBUS; D-; D+; ID; GND; SHIELD

## Connector_USB_Type_C
designator X?  CommentText: "USB Type C"
Manufacturer: Korean Hroparts; ValueManufacturerPartNumber: USB Type C, 3A; PartNumber: TYPE-C-31-M-12; TypeConnector: USB Type C; CurrentMax: 3A; HelpURL: https://lcsc.com/product-detail/USB-Type-C_Korean-Hroparts-Elec-TYPE-C-31-M-12_C165948.html
footprint CON: TYPE-C-31-M-12
pins: A1 (power), A4, A5 (power), A6 (power), A7 (power), A8 (power), B1 (power), B4, B5 (power), B6 (power), B7 (power), B8 (power)
text: Конт.; Цепь; VBUS; USB-DP1; USB-DP2; USB-DN1; USB-DN2; SBU1; SBU2; CC1; CC2; GND

## Connector_XT_2pin
designator X?  CommentText: "Разъем"
Manufacturer: AMASS; ValueManufacturerPartNumber: Power connector, 2pin, 7.2mm, 500V, 60A; PartNumber: XT60PW-M; TypeConnector: Power connector; VoltageMax: 500V; Pitch: 7.2mm; CurrentMax: 60A; Multichannel: 2pin; HelpURL: https://lcsc.com/product-detail/Connectors_Changzhou-Amass-Elec-XT60PW-M_C98732.html
footprint CON: XT60PW-M
pins: 1, 2
text: Конт.; Цепь

## Connector_С-14_3P_F
designator X?  CommentText: "Разъем"
Manufacturer: TE Connectivity; ValueManufacturerPartNumber: Connector, 3pin, 9.53mm, 300VAC, 25A; PartNumber: 6PCV-03-006; TypeConnector: Connector; VoltageMax: 300VAC; Pitch: 9.53mm; CurrentMax: 25A; Multichannel: 3pin; HelpURL: https://www.digikey.com/products/en?keywords=6PCV-03-006
footprint C14_BULGIN_PX0675-PC-COL (10A 250Vac PC Flange Rear Mount Outlet IEC Connector)
pins: 1, 2, 3 (power)
text: Конт.; Цепь; L; N; PE

## Connector_С-14_3P_M
designator X?  CommentText: "Разъем"
Manufacturer: TE Connectivity; ValueManufacturerPartNumber: Connector, 3pin, 9.53mm, 300VAC, 25A; PartNumber: 6PCV-03-006; TypeConnector: Connector; VoltageMax: 300VAC; Pitch: 9.53mm; CurrentMax: 25A; Multichannel: 3pin; HelpURL: https://www.digikey.com/products/en?keywords=6PCV-03-006
footprint C14_BULGIN_PX0580-PC-COL (10A 250Vac PC Flange Rear Mount Inlet IEC Connector)
pins: 1, 2, 3 (power)
text: Конт.; Цепь; L; N; PE

## CWF-2
designator X?  CommentText: "Разъем"
Manufacturer: Connfly; ValueManufacturerPartNumber: Connector, 2pin, 2.54mm, 250VAC, 3A; PartNumber: CWF-2R; TypeConnector: Connector; VoltageMax: 250VAC; Pitch: 2.54mm; CurrentMax: 3A; Multichannel: 2pin; HelpURL: https://www.chipdip.ru/product/cwf-2r-ds1069-2-mr
footprint CON: CWF-2
footprint CON: CWF-2R
pins: 1, 2
text: Конт.; Цепь

## CWF-4
designator X?  CommentText: "Разъем"
Manufacturer: Connfly; ValueManufacturerPartNumber: Connector, 4pin, 2.54mm, 250VAC, 3A; PartNumber: CWF-4R; TypeConnector: Connector; VoltageMax: 250VAC; Pitch: 2.54mm; CurrentMax: 3A; Multichannel: 4pin; HelpURL: https://www.chipdip.ru/product/cwf-4r-ds1069-4-mr
footprint CON: CWF-4
footprint CON: CWF-4R
pins: 1, 2, 3 (power), 4 (power)
text: Конт.; Цепь

## CWF-5
designator X?  CommentText: "Разъем"
Manufacturer: Connfly; ValueManufacturerPartNumber: Connector, 5pin, 2.54mm, 250VAC, 3A; PartNumber: CWF-5R; TypeConnector: Connector; VoltageMax: 250VAC; Pitch: 2.54mm; CurrentMax: 3A; Multichannel: 5pin; HelpURL: https://www.chipdip.ru/product1/8001781597
footprint CON: CWF-5
footprint CON: CWF-5R
pins: 1, 2, 3 (power), 4 (power), 5 (power)
text: Конт.; Цепь

## CWF-6
designator X?  CommentText: "Разъем"
Manufacturer: Connfly; ValueManufacturerPartNumber: Connector, 6pin, 2.54mm, 250VAC, 3A; PartNumber: CWF-6R; TypeConnector: Connector; VoltageMax: 250VAC; Pitch: 2.54mm; CurrentMax: 3A; Multichannel: 6pin; HelpURL: https://www.chipdip.ru/product/cwf-6r-ds1069-6-mr
footprint CON: CWF-6
footprint CON: CWF-6R
pins: 1, 2, 3 (power), 4 (power), 5 (power), 6 (power)
text: Конт.; Цепь

## CWF-8
designator X?  CommentText: "Разъем"
Manufacturer: Connfly; ValueManufacturerPartNumber: Connector, 8pin, 2.5mm, 250VAC, 3A; PartNumber: CWF-8; TypeConnector: Connector; VoltageMax: 250VAC; Pitch: 2.5mm; CurrentMax: 3A; Multichannel: 8pin; HelpURL: https://www.chipdip.ru/product/cwf-8
footprint CON: CWF-8
footprint CON: CWF-8R
pins: 1, 2, 3 (power), 4 (power), 5 (power), 6 (power), 7 (power), 8 (power)
text: Конт.; Цепь

## CWF-14
designator X?  CommentText: "Разъем"
Manufacturer: Connfly; ValueManufacturerPartNumber: Connector, 14pin, 2.5mm, 250VAC, 3A; PartNumber: CWF-14; TypeConnector: Connector; VoltageMax: 250VAC; Pitch: 2.5mm; CurrentMax: 3A; Multichannel: 14pin; HelpURL: https://www.chipdip.ru/product/cwf-14
footprint CON: CWF-14
pins: 1, 2, 3 (power), 4 (power), 5 (power), 6 (power), 7 (power), 8 (power), 9 (power), 10 (power), 11 (power), 12 (power), 13 (power), 14 (power)
text: Конт.; Цепь

## IDC-6
designator X?  CommentText: "Разъем"
Manufacturer: Connfly; ValueManufacturerPartNumber: Connector, 6pin, 2.54mm, 250VAC, 3A; PartNumber: IDC-6; TypeConnector: Connector; VoltageMax: 250VAC; Pitch: 2.54mm; CurrentMax: 3A; Multichannel: 6pin; HelpURL: https://ru.aliexpress.com/item/1719644716.html?spm=a2g0v.search0104.3.23.4d9c1bc6xlIt6Q&ws_ab_test=searchweb0_0%2Csearchweb201602_10_10065_10068_319_317_10696_453_10084_454_10083_10618_10307_10301_537_536_10059_10884_10887_321_322_10915_10103_10914_10911_10910%2Csearchweb201603_52%2CppcSwitch_0&algo_expid=18a75006-9775-490c-9b34-8e5eba9edd8d-3&algo_pvid=18a75006-9775-490c-9b34-8e5eba9edd8d&transAbTest=ae803_5
footprint CON: IDC-6MS (IDC-6MS 6 pin PCB-mount connector)
pins: 1, 2, 3 (power), 4 (power), 5 (power), 6 (power)
text: Конт.; Цепь

## IDC-8
designator X?  CommentText: "Разъем"
Manufacturer: Connfly; ValueManufacturerPartNumber: Connector, 8pin, 2.54mm, 250VAC, 3A; PartNumber: IDC-8; TypeConnector: Connector; VoltageMax: 250VAC; Pitch: 2.54mm; CurrentMax: 3A; Multichannel: 8pin; HelpURL: https://ru.aliexpress.com/item/32844529829.html?spm=a2g0v.search0104.3.71.2aab7ea5RAoRWf&ws_ab_test=searchweb0_0%2Csearchweb201602_10_10065_10068_319_317_10696_453_10084_454_10083_10618_10307_10301_537_536_10059_10884_10887_321_322_10915_10103_10914_10911_10910%2Csearchweb201603_52%2CppcSwitch_0&algo_expid=63c39673-c933-4d26-b04d-b3f9765a9d8b-10&algo_pvid=63c39673-c933-4d26-b04d-b3f9765a9d8b&transAbTest=ae803_5
footprint CON: IDC-8MS
pins: 1, 2, 3 (power), 4 (power), 5 (power), 6 (power), 7 (power), 8 (power)
text: Конт.; Цепь

## IDC-10
designator X?  CommentText: "Разъем"
Manufacturer: Connfly; ValueManufacturerPartNumber: Connector, 10pin, 2.54mm, 250VAC, 3A; PartNumber: IDC-10; TypeConnector: Connector; VoltageMax: 250VAC; Pitch: 2.54mm; CurrentMax: 3A; Multichannel: 10pin; HelpURL: https://www.chipdip.ru/product/idc-10ms
footprint CON: IDC-10MS (IDC-10MS 10 pin PCB-mount header)
pins: 1, 2, 3 (power), 4 (power), 5 (power), 6 (power), 7 (power), 8 (power), 9 (power), 10 (power)
text: Конт.; Цепь

## IDC-16
designator X?  CommentText: "Разъем"
Manufacturer: Connfly; ValueManufacturerPartNumber: Connector, 16pin, 2.54mm, 250VAC, 3A; PartNumber: IDC-16; TypeConnector: Connector; VoltageMax: 250VAC; Pitch: 2.54mm; CurrentMax: 3A; Multichannel: 16pin; HelpURL: https://www.chipdip.ru/product/idc-16ms
footprint CON: IDC-16MS (IDC-16MS straight leads pcb mount)
pins: 1, 2, 3 (power), 4 (power), 5 (power), 6 (power), 7 (power), 8 (power), 9 (power), 10 (power), 11 (power), 12 (power), 13 (power), 14 (power), 15 (power), 16 (power)
text: Конт.; Цепь

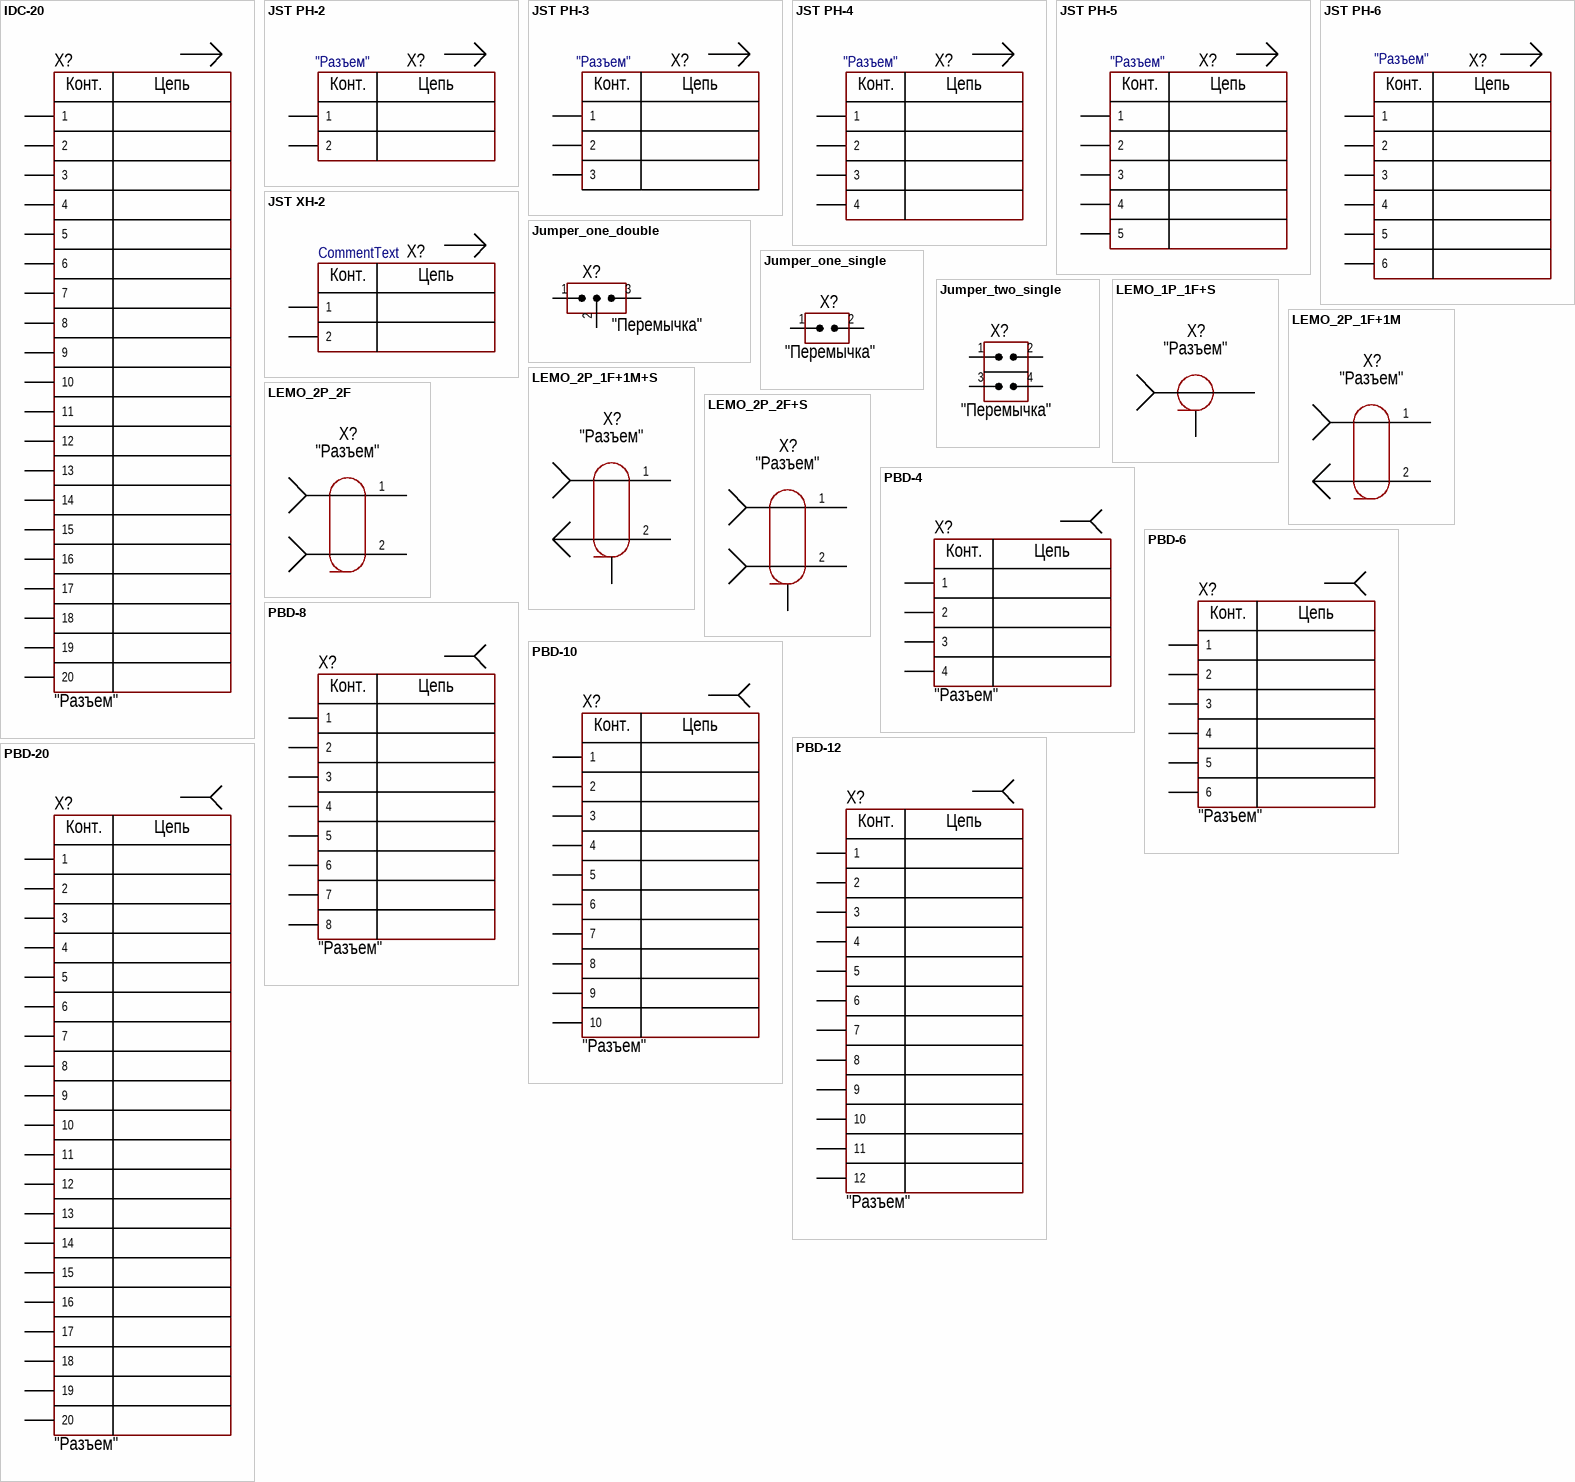
[diagram p4: symbols IDC-20 to PBD-20]

## IDC-20
designator X?  CommentText: "Разъем"
Manufacturer: Connfly; ValueManufacturerPartNumber: Connector, 20pin, 2.54mm, 250VAC, 3A; PartNumber: IDC-20; TypeConnector: Connector; VoltageMax: 250VAC; Pitch: 2.54mm; CurrentMax: 3A; Multichannel: 20pin; HelpURL: https://www.chipdip.ru/product/idc-20ms
footprint CON: IDC-20MS
pins: 1, 2, 3 (power), 4 (power), 5 (power), 6 (power), 7 (power), 8 (power), 9 (power), 10 (power), 11 (power), 12 (power), 13 (power), 14 (power), 15 (power), 16 (power), 17 (power), 18 (power), 19 (power), 20 (power)
text: Конт.; Цепь

## JST PH-2
designator X?, comment "Разъем"
Manufacturer: JST; ValueManufacturerPartNumber: Connector, 3pin, 2, 250VAC, 2; TypeConnector: Connector; VoltageMax: 250VAC; Pitch: 2; Multichannel: 3pin; PartNumber: =Footprint; CurrentMax: 2; CommentText: "Разъем"
footprint CON: JST B2B-PH-K top entry TH
pins: 1, 2
text: Конт.; Цепь

## JST PH-3
designator X?, comment "Разъем"
Manufacturer: JST; ValueManufacturerPartNumber: Connector, 3pin, 2, 250VAC, 2; TypeConnector: Connector; VoltageMax: 250VAC; Pitch: 2; Multichannel: 3pin; PartNumber: =Footprint; CurrentMax: 2; CommentText: "Разъем"
footprint CON: JST B3B-PH-SM4 top entry
footprint CON: JST S3B-PH-SM4 side entry
footprint CON: JST B3B-PH-K top entry TH
pins: 1, 2, 3 (power)
text: Конт.; Цепь

## JST PH-4
designator X?, comment "Разъем"
Manufacturer: JST; ValueManufacturerPartNumber: Connector, 4pin, 2, 250VAC, 2; TypeConnector: Connector; VoltageMax: 250VAC; Pitch: 2; Multichannel: 4pin; PartNumber: =Footprint; CurrentMax: 2; CommentText: "Разъем"
footprint CON: JST S4B-PH-SM4 side entry
footprint CON: JST B4B-PH-SM4 top entry
footprint CON: JST B4B-PH-K top entry TH
pins: 1, 2, 3 (power), 4 (power)
text: Конт.; Цепь

## JST PH-5
designator X?, comment "Разъем"
Manufacturer: JST; ValueManufacturerPartNumber: Connector, 6pin, 2, 500VAC, 2A; TypeConnector: Connector; VoltageMax: 500VAC; Pitch: 2; CurrentMax: 2A; Multichannel: 6pin; PartNumber: =Footprint; CommentText: "Разъем"
footprint CON: JST B5B-PH-SM4 top entry
footprint CON: JST S5B-PH-SM4 side entry
footprint CON: JST B5B-PH-K top entry TH
pins: 1, 2, 3 (power), 4 (power), 5 (power)
text: Конт.; Цепь

## JST PH-6
designator X?, comment "Разъем"
Manufacturer: JST; ValueManufacturerPartNumber: Connector, 6pin, 2, 500VAC, 2A; TypeConnector: Connector; VoltageMax: 500VAC; Pitch: 2; CurrentMax: 2A; Multichannel: 6pin; PartNumber: =Footprint; CommentText: "Разъем"
footprint CON: JST B6B-PH-SM4 top entry
footprint CON: JST S6B-PH-SM4 side entry
footprint CON: JST B6B-PH-K top entry TH
pins: 1, 2, 3 (power), 4 (power), 5 (power), 6 (power)
text: Конт.; Цепь

## JST XH-2
designator X?, comment CommentText
Manufacturer: JST; ValueManufacturerPartNumber: Connector, 3pin, 2, 250VAC, 2; TypeConnector: Connector; VoltageMax: 250VAC; Pitch: 2; Multichannel: 3pin; CommentText: "Разъем"; CurrentMax: 2
footprint CON: JST B2B-XH-A top entry TH
pins: 1, 2
text: Конт.; Цепь

## Jumper_one_double
designator X?  CommentText: "Перемычка"
footprint JUMPER3-4.8X1.9-G2.0 (Pads Solder Jumper for Bound by Solder Drop - Overall dimensions 4.8mmx1.9mm, Gap 0.2mm)
footprint JUMPER3-4.8X1.9-G3.0 (Pads for Bound by Solder Drop - Equivalent Size 0805 - Gap 0.3mm)
pins: 1 IN, 2 IN, 3 IN

## Jumper_one_single
designator X?  CommentText: "Перемычка"
footprint CON: PLS-2
footprint JUMPER2
footprint JUMPER2-2.8X1.9-G2.0 (Pads Solder Jumper for Bound by Solder Drop - Overall dimensions 4.8mmx1.9mm, Gap 0.2mm)
footprint JUMPER2-2.8X1.9-G3.0 (Pads for Bound by Solder Drop - Gap 0.3mm)
pins: 1 IN, 2 IN

## Jumper_two_single
designator X?  CommentText: "Перемычка"
footprint JUMPER2X2
footprint CON: PLD-4
pins: 1 IN, 2 IN, 3 IN, 4 IN

## LEMO_1P_1F+S
designator X?  CommentText: "Разъем"
Manufacturer: LEMO; ValueManufacturerPartNumber: Straight Socket, 3 kV, 50 Ohm, 4 A; PartNumber: EPA.00.250.NTN; TypeConnector: Straight Socket; Current: 4 A; Voltage: 3 kV; Impedance: 50 Ohm; HelpURL: https://www.mouser.com/ProductDetail/LEMO/EPA.00.250.NTN?qs=uLfVlVfCHH1ItQCgiPxVgA%3D%3D
footprint LEMO_EPA.00.250.NTN (50 Ohm size 00 Coaxial Straight socket)
footprint LEMO_EPE.00.250.NTN (50 Ohm size 00 Coaxial Straight Socket with Two Nuts)
footprint LEMO_EPK.00.250.NTN (50 Ohm size 00 Coaxial Elbow (90°) socket)
footprint LEMO_EPL.00.250.NTN (50 Ohm size 00 Coaxial Elbow (90°) socket)
pins: 0, 1

## LEMO_2P_1F+1M
designator X?  CommentText: "Разъем"
Manufacturer: LEMO; ValueManufacturerPartNumber: Fixed Socket, 2.1 kV, -, 10 A; PartNumber: ECP.0S.302.CLN; TypeConnector: Fixed Socket; Current: 10 A; Voltage: 2.1 kV; HelpURL: https://www.mouser.com/ProductDetail/LEMO/ECP.0S.302.CLN?qs=kWcaGGHSxRqoNoIc6KRcDw%3D%3D; Impedance: -
footprint LEMO_ECP.0S.302.CLN (Size 0S, Fixed Receptacle with 2 Nuts, Straight Contacts 1 Female + 1 Male  (Hermaphroditic Keying))
footprint LEMO_ECP.1S.302.CLN (Size 1S, Fixed Receptacle with 2 Nuts, Straight Contacts 1 Female + 1 Male  (Hermaphroditic Keying))
footprint LEMO_ECP.2S.302.CLN (Size 2S, Fixed Receptacle with 2 Nuts, Straight Contact 1 Female + 1 Male  (Hermaphroditic Keying))
pins: 1, 2

## LEMO_2P_1F+1M+S
designator X?  CommentText: "Разъем"
Manufacturer: LEMO; ValueManufacturerPartNumber: Elbow Socket, 1.2 kV, -, 4.5 A; PartNumber: EPL.0S.302.HLN; TypeConnector: Elbow Socket; Current: 4.5 A; Voltage: 1.2 kV; HelpURL: https://www.mouser.com/ProductDetail/LEMO/EPL.0S.302.HLN?qs=cmND3fj6fzNjqsCdSup%252BQA%3D%3D; Impedance: -
footprint LEMO_EPL.0S.302.HLN (Elbow Receptacle (90°) With 1 Female + 1 Male Contacts and Hermaphroditic Keying)
footprint LEMO_EPL.1S.302.HLN (Elbow Socket (90°) With 1 Female + 1 Male Contacts For PCB, Serie 1S)
footprint LEMO_EZG.0S.302.NLNY (Serie 0S, 1 Female + 1 Male Contacts, Straight Socket With Key (G))
pins: 0, 1, 2

## LEMO_2P_2F
designator X?  CommentText: "Разъем"
Manufacturer: LEMO; ValueManufacturerPartNumber: Receptacle Socket, 1.8 kV, -, 10 A; PartNumber: ECG.0B.302.CLN; TypeConnector: Receptacle Socket; Current: 10 A; Voltage: 1.8 kV; HelpURL: https://www.mouser.com/ProductDetail/LEMO/ECG.0B.302.CLN?qs=g4eXmMl0IexhDv8Hwiqrow%3D%3D; Impedance: -
footprint LEMO_ECG.0B.302.CLN (Size 0B, 2 Female Contacts Straight Receptacle With Two Nut For Panel Mounting)
footprint LEMO_ECG.0B.302.CLV (Size 0B, 2 Female Contacts Elbow Receptacle (90°) With Two Nut For Panel Mounting)
pins: 1, 2

## LEMO_2P_2F+S
designator X?  CommentText: "Разъем"
Manufacturer: LEMO; ValueManufacturerPartNumber: Elbow Socket, 1.45 kV, -, 4.5 A; PartNumber: EPG.0B.302.HLN; TypeConnector: Elbow Socket; Current: 4.5 A; Voltage: 1.45 kV; HelpURL: https://www.mouser.com/ProductDetail/LEMO/EPG.0B.302.HLN?qs=ve9n7aGWr8ndgbw7j%2FX5DA%3D%3D; Impedance: -
footprint LEMO_EPG.0B.302.HLN (Elbow Receptacle (90°) With 2 Female Contacts and Key (G) For PCB)
footprint LEMO_EPG.00.302.NLN (Multipole 2 Contacts, 50 Ohm size 00 Coaxial Elbow (90°) Socket With Key)
footprint LEMO_EPG.1B.302.HLN (Elbow Receptacle (90°) With 2 Female Contacts and Key For PCB)
footprint LEMO_EXG.0B.302.HLN (Size 0B, 2 Female Contacts Elbow Receptacle (90°) With Alignment Key and Two Nuts (For Back Panel Mounting))
footprint LEMO_EXG.1B.302.HLN (Size 1B, 2 Female Contacts Elbow Receptacle (90°) With Alignment Key and Two Nuts (For Back Panel Mounting))
footprint LEMO_EZG.0B.302.CLN (Size 0B, Straight Receptacle with 2 Female Contacts and Alignment Key (G))
footprint LEMO_EZG.00.302.CLN (Size 00, Straight Receptacle with 2 Female Contacts and Alignment Key (G))
footprint LEMO_EZG.1B.302.CLN (Size 1B, Straight Socket with 2 Female Contacts and Alignment Key (G))
pins: 0, 1, 2

## PBD-4
designator X?  CommentText: "Разъем"
Manufacturer: Connfly; ValueManufacturerPartNumber: Connector, 4pin, 2.54mm, 500VAC, 3A; PartNumber: PBD-4; TypeConnector: Connector; VoltageMax: 500VAC; Pitch: 2.54mm; CurrentMax: 3A; Multichannel: 4pin; HelpURL: https://www.chipdip.ru/product/pbd-4
footprint CON: PBD-4 (2.00) (PBD-4)
footprint CON: PBD-4 (2.54) (PBD-4)
footprint PBD-4R (2.54) (PBD-4)
pins: 1, 2, 3 (power), 4 (power)
text: Конт.; Цепь

## PBD-6
designator X?  CommentText: "Разъем"
Manufacturer: Connfly; ValueManufacturerPartNumber: Connector, 6pin, 2.54mm, 500VAC, 3A; PartNumber: PBD-6; TypeConnector: Connector; VoltageMax: 500VAC; Pitch: 2.54mm; CurrentMax: 3A; Multichannel: 6pin; HelpURL: https://www.chipdip.ru/product/pbd-6
footprint CON: PBD-6 (PBD-6)
footprint CON: PBD-6R
pins: 1, 2, 3 (power), 4 (power), 5 (power), 6 (power)
text: Конт.; Цепь

## PBD-8
designator X?  CommentText: "Разъем"
Manufacturer: Connfly; ValueManufacturerPartNumber: Connector, 8pin, 2.54mm, 500VAC, 3A; PartNumber: PBD-8; TypeConnector: Connector; VoltageMax: 500VAC; Pitch: 2.54mm; CurrentMax: 3A; Multichannel: 8pin; HelpURL: https://www.chipdip.ru/product/pbd-8
footprint CON: PBD-8 (PBD-8)
pins: 1, 2, 3 (power), 4 (power), 5 (power), 6 (power), 7 (power), 8 (power)
text: Конт.; Цепь

## PBD-10
designator X?  CommentText: "Разъем"
Manufacturer: Connfly; ValueManufacturerPartNumber: Connector, 10pin, 2.54mm, 500VAC, 3A; PartNumber: PBD-10; TypeConnector: Connector; VoltageMax: 500VAC; Pitch: 2.54mm; CurrentMax: 3A; Multichannel: 10pin; HelpURL: https://www.chipdip.ru/product/pbd-10
footprint CON: PBD-10
footprint PBD-10R (2.54)
pins: 1, 2, 3 (power), 4 (power), 5 (power), 6 (power), 7 (power), 8 (power), 9 (power), 10 (power)
text: Конт.; Цепь

## PBD-12
designator X?  CommentText: "Разъем"
Manufacturer: Connfly; ValueManufacturerPartNumber: Connector, 12pin, 2.54mm, 500VAC, 3A; PartNumber: PBD-12; TypeConnector: Connector; VoltageMax: 500VAC; Pitch: 2.54mm; CurrentMax: 3A; Multichannel: 12pin; HelpURL: https://www.chipdip.ru/product/pbd-12
footprint PBD-12 (2.54) (PBD-12)
footprint PBD-12R (2.54)
pins: 1, 2, 3 (power), 4 (power), 5 (power), 6 (power), 7 (power), 8 (power), 9 (power), 10 (power), 11 (power), 12 (power)
text: Конт.; Цепь

## PBD-20
designator X?  CommentText: "Разъем"
Manufacturer: Connfly; ValueManufacturerPartNumber: Connector, 20pin, 2.54mm, 500VAC, 3A; PartNumber: PBD-20; TypeConnector: Connector; VoltageMax: 500VAC; Pitch: 2.54mm; CurrentMax: 3A; Multichannel: 20pin; HelpURL: https://www.chipdip.ru/product/pbd-20
footprint CON: PBD-20
footprint CON: PBD-20R (PBD-20R)
pins: 1, 2, 3 (power), 4 (power), 5 (power), 6 (power), 7 (power), 8 (power), 9 (power), 10 (power), 11 (power), 12 (power), 13 (power), 14 (power), 15 (power), 16 (power), 17 (power), 18 (power), 19 (power), 20 (power)
text: Конт.; Цепь

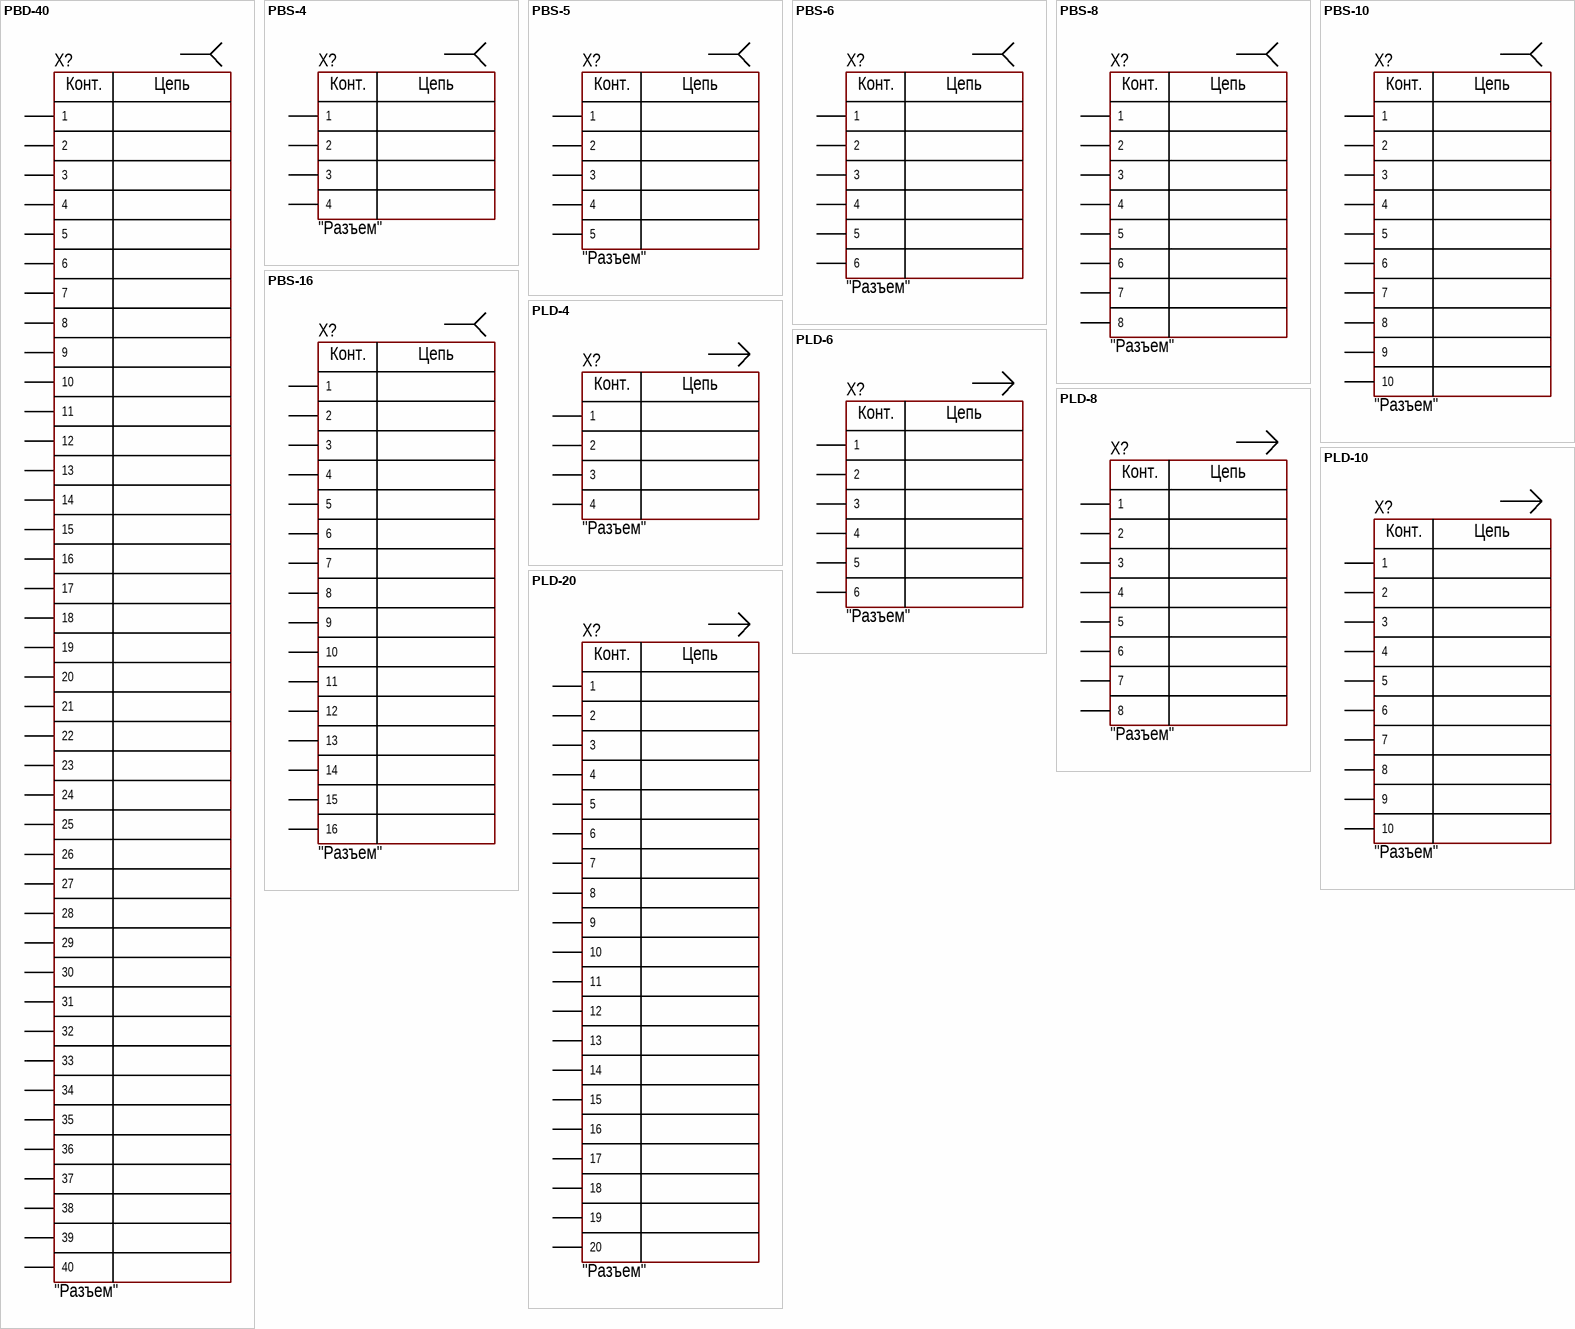
[diagram p5: symbols PBD-40 to PLD-20]

## PBD-40
designator X?  CommentText: "Разъем"
Manufacturer: Connfly; ValueManufacturerPartNumber: Connector, 20pin, 2.54mm, 500VAC, 3A; PartNumber: PLS-20; TypeConnector: Connector; VoltageMax: 500VAC; Pitch: 2.54mm; CurrentMax: 3A; Multichannel: 20pin; HelpURL: https://www.chipdip.ru/product/pls-20
footprint CON: PBD-40 (2.00)
footprint CON: PBD-40 (2.54)
pins: 1, 2, 3, 4, 5, 6, 7, 8, 9, 10, 11, 12, 13, 14, 15, 16, 17, 18, 19, 20, 21, 22, 23, 24, 25, 26, 27, 28, 29, 30, 31, 32, 33, 34, 35, 36, 37, 38, 39, 40
text: Конт.; Цепь

## PBS-4
designator X?  CommentText: "Разъем"
Manufacturer: Connfly; ValueManufacturerPartNumber: Connector, 4pin, 2.54mm, 500VAC, 3A; PartNumber: PBS-4; TypeConnector: Connector; VoltageMax: 500VAC; Pitch: 2.54mm; CurrentMax: 3A; Multichannel: 4pin; HelpURL: https://www.chipdip.ru/product/pbs-4
footprint CON: PBS-4 (PBS-5)
pins: 1, 2, 3 (power), 4 (power)
text: Конт.; Цепь

## PBS-5
designator X?  CommentText: "Разъем"
Manufacturer: Connfly; ValueManufacturerPartNumber: Connector, 5pin, 2.54mm, 500VAC, 3A; PartNumber: PBS-5; TypeConnector: Connector; VoltageMax: 500VAC; Pitch: 2.54mm; CurrentMax: 3A; Multichannel: 5pin; HelpURL: https://www.chipdip.ru/product/pbs-5
footprint CON: PBS-5 (PBS-5)
pins: 1, 2, 3 (power), 4 (power), 5 (power)
text: Конт.; Цепь

## PBS-6
designator X?  CommentText: "Разъем"
Manufacturer: Connfly; ValueManufacturerPartNumber: Connector, 6pin, 2.54mm, 500VAC, 3A; PartNumber: PBS-6; TypeConnector: Connector; VoltageMax: 500VAC; Pitch: 2.54mm; CurrentMax: 3A; Multichannel: 6pin; HelpURL: https://www.chipdip.ru/product/pbs-6
footprint CON: PBS-6 (PBS-6)
pins: 1, 2, 3 (power), 4 (power), 5 (power), 6 (power)
text: Конт.; Цепь

## PBS-8
designator X?  CommentText: "Разъем"
Manufacturer: Connfly; ValueManufacturerPartNumber: Connector, 8pin, 2.54mm, 500VAC, 3A; PartNumber: PBS-8; TypeConnector: Connector; VoltageMax: 500VAC; Pitch: 2.54mm; CurrentMax: 3A; Multichannel: 8pin; HelpURL: https://www.chipdip.ru/product/pbs-8
footprint CON: PBS-8 (PBS-8)
pins: 1, 2, 3 (power), 4 (power), 5 (power), 6 (power), 7 (power), 8 (power)
text: Конт.; Цепь

## PBS-10
designator X?  CommentText: "Разъем"
Manufacturer: Connfly; ValueManufacturerPartNumber: Connector, 10pin, 2.54mm, 500VAC, 3A; PartNumber: PBS-10; TypeConnector: Connector; VoltageMax: 500VAC; Pitch: 2.54mm; CurrentMax: 3A; Multichannel: 10pin; HelpURL: https://www.chipdip.ru/product/pbs-10
footprint CON: PBS-10 (PBS-10)
pins: 1, 2, 3 (power), 4 (power), 5 (power), 6 (power), 7 (power), 8 (power), 9 (power), 10 (power)
text: Конт.; Цепь

## PBS-16
designator X?  CommentText: "Разъем"
Manufacturer: Connfly; ValueManufacturerPartNumber: Connector, 16pin, 2.54mm, 500VAC, 3A; PartNumber: PBS-16; TypeConnector: Connector; VoltageMax: 500VAC; Pitch: 2.54mm; CurrentMax: 3A; Multichannel: 16pin; HelpURL: https://www.chipdip.ru/product/pbs16
footprint CON: PBS-16 (PBS-16)
pins: 1, 2, 3 (power), 4 (power), 5 (power), 6 (power), 7 (power), 8 (power), 9 (power), 10 (power), 11 (power), 12 (power), 13 (power), 14 (power), 15 (power), 16 (power)
text: Конт.; Цепь

## PLD-4
designator X?  CommentText: "Разъем"
Manufacturer: Connfly; ValueManufacturerPartNumber: Connector, 6pin, 2.54mm, 500VAC, 3A; PartNumber: PLD-4; TypeConnector: Connector; VoltageMax: 500VAC; Pitch: 2.54mm; CurrentMax: 3A; Multichannel: 6pin; HelpURL: https://www.chipdip.ru/product/pld-6
footprint CON: PLD-4
pins: 1, 2, 3 (power), 4 (power)
text: Конт.; Цепь

## PLD-6
designator X?  CommentText: "Разъем"
Manufacturer: Connfly; ValueManufacturerPartNumber: Connector, 6pin, 2.54mm, 500VAC, 3A; PartNumber: PLD-6; TypeConnector: Connector; VoltageMax: 500VAC; Pitch: 2.54mm; CurrentMax: 3A; Multichannel: 6pin; HelpURL: https://www.chipdip.ru/product/pld-6
footprint CON: PLD-6
pins: 1, 2, 3 (power), 4 (power), 5 (power), 6 (power)
text: Конт.; Цепь

## PLD-8
designator X?  CommentText: "Разъем"
Manufacturer: Connfly; ValueManufacturerPartNumber: Connector, 8pin, 2.54mm, 500VAC, 3A; PartNumber: PLD-8; TypeConnector: Connector; VoltageMax: 500VAC; Pitch: 2.54mm; CurrentMax: 3A; Multichannel: 8pin; HelpURL: https://www.chipdip.ru/product/pld-8-ds1021-2x4
footprint CON: PLD-8 (PLD-40 8 pin header)
pins: 1, 2, 3 (power), 4 (power), 5 (power), 6 (power), 7 (power), 8 (power)
text: Конт.; Цепь

## PLD-10
designator X?  CommentText: "Разъем"
Manufacturer: Connfly; ValueManufacturerPartNumber: Connector, 10pin, 2.54mm, 500VAC, 3A; PartNumber: PLD-10; TypeConnector: Connector; VoltageMax: 500VAC; Pitch: 2.54mm; CurrentMax: 3A; Multichannel: 10pin; HelpURL: https://www.chipdip.ru/product/pld-10
footprint CON: PLD-10
footprint PLD-10R (2.54)
pins: 1, 2, 3 (power), 4 (power), 5 (power), 6 (power), 7 (power), 8 (power), 9 (power), 10 (power)
text: Конт.; Цепь

## PLD-20
designator X?  CommentText: "Разъем"
Manufacturer: Connfly; ValueManufacturerPartNumber: Connector, 20pin, 2.54mm, 500VAC, 3A; PartNumber: PLD-20; TypeConnector: Connector; VoltageMax: 500VAC; Pitch: 2.54mm; CurrentMax: 3A; Multichannel: 20pin; HelpURL: https://www.chipdip.ru/product/pld-20
footprint CON: PLD-20
pins: 1, 2, 3 (power), 4 (power), 5 (power), 6 (power), 7 (power), 8 (power), 9 (power), 10 (power), 11 (power), 12 (power), 13 (power), 14 (power), 15 (power), 16 (power), 17 (power), 18 (power), 19 (power), 20 (power)
text: Конт.; Цепь

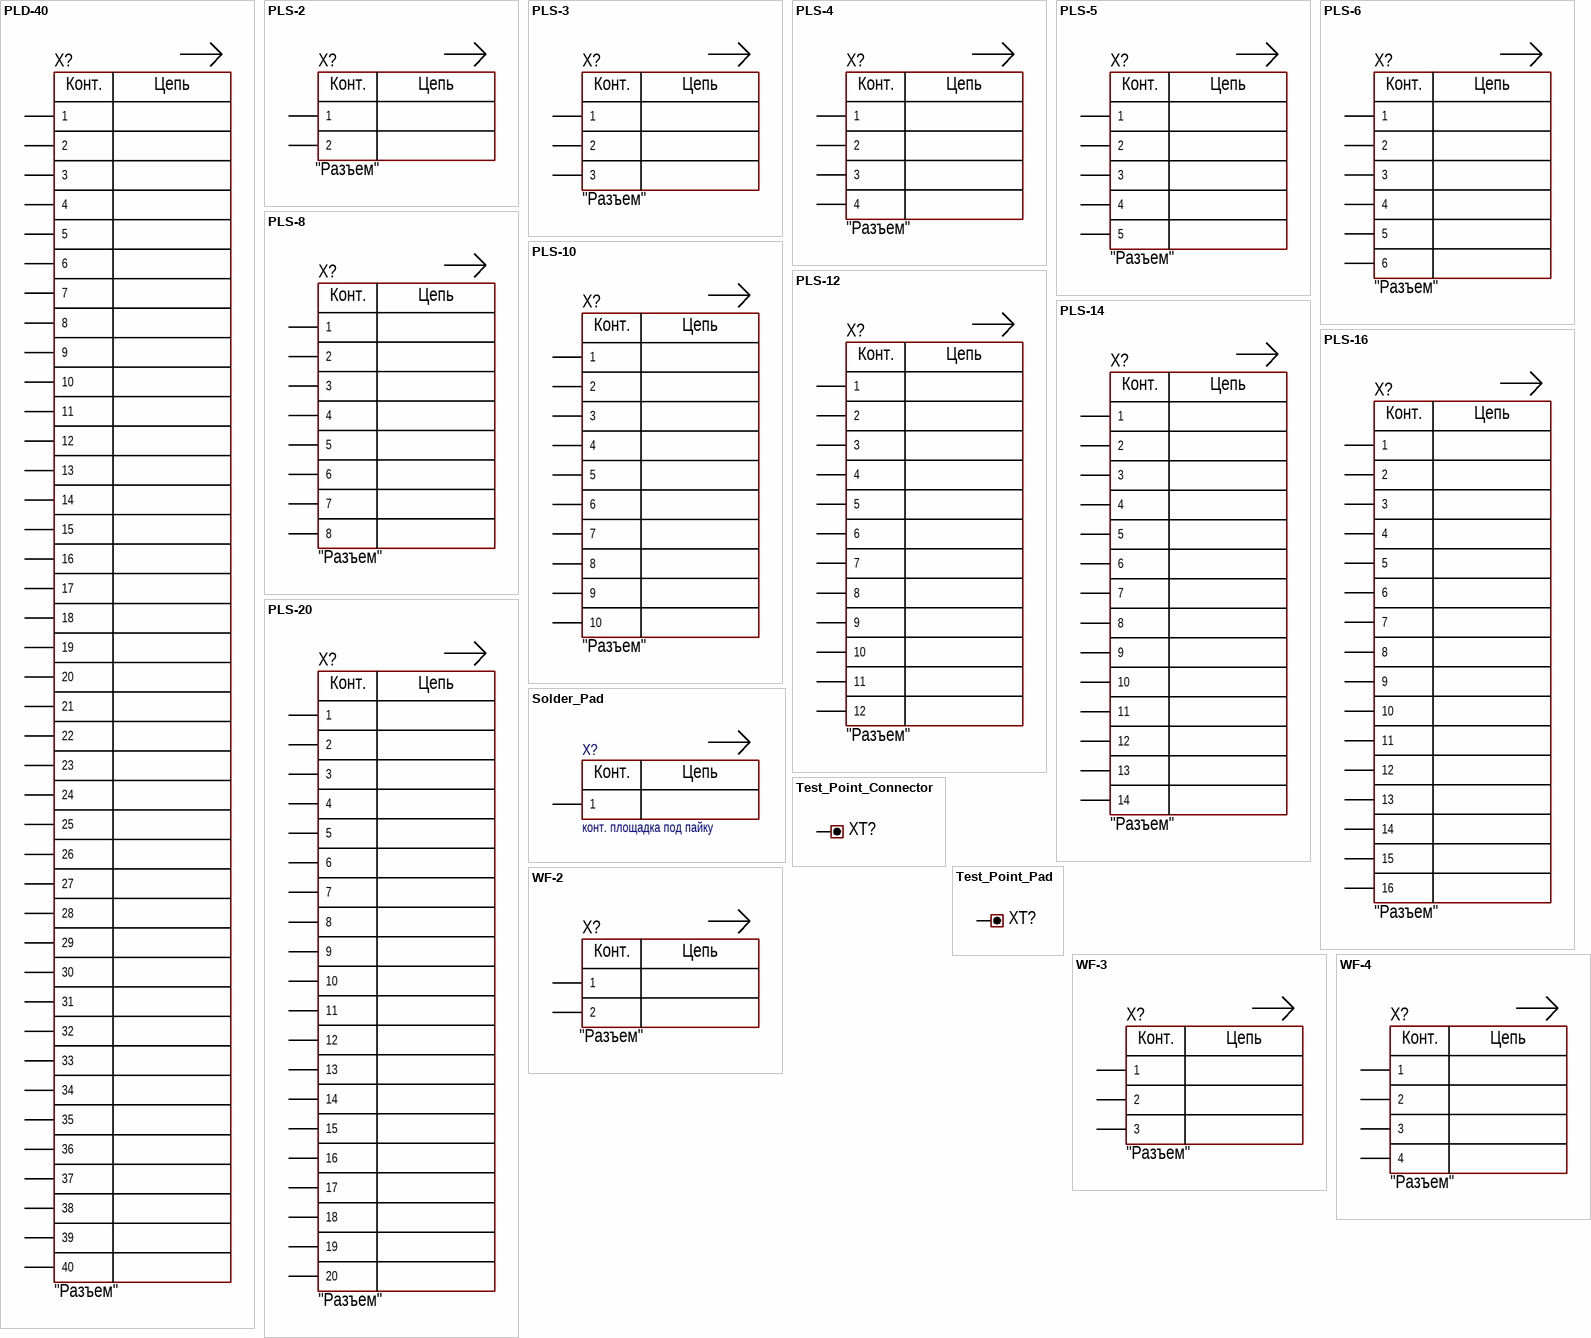
[diagram p6: symbols PLD-40 to WF-4]

## PLD-40
designator X?  CommentText: "Разъем"
Manufacturer: Connfly; ValueManufacturerPartNumber: Connector, 40pin, 2mm, 500VAC, 3A; PartNumber: PLD-40; TypeConnector: Connector; VoltageMax: 500VAC; Pitch: 2mm; CurrentMax: 3A; Multichannel: 40pin; HelpURL: https://www.chipdip.ru/product/pld2-40
footprint CON: PLD-40 (2.00)
pins: 1, 2, 3, 4, 5, 6, 7, 8, 9, 10, 11, 12, 13, 14, 15, 16, 17, 18, 19, 20, 21, 22, 23, 24, 25, 26, 27, 28, 29, 30, 31, 32, 33, 34, 35, 36, 37, 38, 39, 40
text: Конт.; Цепь

## PLS-2
designator X?  CommentText: "Разъем"
Manufacturer: Connfly; ValueManufacturerPartNumber: Connector, 2pin, 2.54mm, 500VAC, 3A; PartNumber: PLS-2; TypeConnector: Connector; VoltageMax: 500VAC; Pitch: 2.54mm; CurrentMax: 3A; Multichannel: 2pin; HelpURL: https://www.chipdip.ru/product/pls-2
footprint CON: PLS-2
footprint CON: PLS-2R
pins: 1, 2
text: Конт.; Цепь

## PLS-3
designator X?  CommentText: "Разъем"
Manufacturer: Connfly; ValueManufacturerPartNumber: Connector, 3pin, 2.54mm, 500VAC, 3A; PartNumber: PLS-3; TypeConnector: Connector; VoltageMax: 500VAC; Pitch: 2.54mm; CurrentMax: 3A; Multichannel: 3pin; HelpURL: https://www.chipdip.ru/product/pls-3
footprint CON: PLS-3
pins: 1, 2, 3 (power)
text: Конт.; Цепь

## PLS-4
designator X?  CommentText: "Разъем"
Manufacturer: Connfly; ValueManufacturerPartNumber: Connector, 4pin, 2.54mm, 500VAC, 3A; PartNumber: PLS-4; TypeConnector: Connector; VoltageMax: 500VAC; Pitch: 2.54mm; CurrentMax: 3A; Multichannel: 4pin; HelpURL: https://www.chipdip.ru/product/pls-4
footprint CON: PLS-4 (PLS-40 4 pin header)
footprint CON: PLS-4R (PLS-4R 4 pin header)
pins: 1, 2, 3 (power), 4 (power)
text: Конт.; Цепь

## PLS-5
designator X?  CommentText: "Разъем"
Manufacturer: Connfly; ValueManufacturerPartNumber: Connector, 5pin, 2.54mm, 500VAC, 3A; PartNumber: PLS-5; TypeConnector: Connector; VoltageMax: 500VAC; Pitch: 2.54mm; CurrentMax: 3A; Multichannel: 5pin; HelpURL: https://www.chipdip.ru/product/pls-5
footprint CON: PLS-5
pins: 1, 2, 3 (power), 4 (power), 5 (power)
text: Конт.; Цепь

## PLS-6
designator X?  CommentText: "Разъем"
Manufacturer: Connfly; ValueManufacturerPartNumber: Connector, 6pin, 2.54mm, 500VAC, 3A; PartNumber: PLS-6; TypeConnector: Connector; VoltageMax: 500VAC; Pitch: 2.54mm; CurrentMax: 3A; Multichannel: 6pin; HelpURL: https://www.chipdip.ru/product/pls-6
footprint CON: PLS-6
pins: 1, 2, 3 (power), 4 (power), 5 (power), 6 (power)
text: Конт.; Цепь

## PLS-8
designator X?  CommentText: "Разъем"
Manufacturer: Connfly; ValueManufacturerPartNumber: Connector, 8pin, 2.54mm, 500VAC, 3A; PartNumber: PLS-8; TypeConnector: Connector; VoltageMax: 500VAC; Pitch: 2.54mm; CurrentMax: 3A; Multichannel: 8pin; HelpURL: https://www.chipdip.ru/product/pls-8-ds1021-1-8sf112
footprint CON: PLS-8 (PLS-40 8 pin header)
pins: 1, 2, 3 (power), 4 (power), 5 (power), 6 (power), 7 (power), 8 (power)
text: Конт.; Цепь

## PLS-10
designator X?  CommentText: "Разъем"
Manufacturer: Connfly; ValueManufacturerPartNumber: Connector, 10pin, 2.54mm, 500VAC, 3A; PartNumber: PLS-10; TypeConnector: Connector; VoltageMax: 500VAC; Pitch: 2.54mm; CurrentMax: 3A; Multichannel: 10pin; HelpURL: https://www.chipdip.ru/product/pls-10
footprint CON: PLS-10 (PLS-40 10 pin header)
pins: 1, 2, 3 (power), 4 (power), 5 (power), 6 (power), 7 (power), 8 (power), 9 (power), 10 (power)
text: Конт.; Цепь

## PLS-12
designator X?  CommentText: "Разъем"
Manufacturer: Connfly; ValueManufacturerPartNumber: Connector, 12pin, 2.54mm, 500VAC, 3A; PartNumber: PLS-12; TypeConnector: Connector; VoltageMax: 500VAC; Pitch: 2.54mm; CurrentMax: 3A; Multichannel: 12pin; HelpURL: https://www.chipdip.ru/product/pls-12
footprint CON: PLS-12 (PLS-40 12 pin header)
pins: 1, 2, 3 (power), 4 (power), 5 (power), 6 (power), 7 (power), 8 (power), 9 (power), 10 (power), 11 (power), 12 (power)
text: Конт.; Цепь

## PLS-14
designator X?  CommentText: "Разъем"
Manufacturer: Connfly; ValueManufacturerPartNumber: Connector, 14pin, 2.54mm, 500VAC, 3A; PartNumber: PLS-14; TypeConnector: Connector; VoltageMax: 500VAC; Pitch: 2.54mm; CurrentMax: 3A; Multichannel: 14pin; HelpURL: https://www.chipdip.ru/product/pls-14
footprint CON: PLS-14
pins: 1, 2, 3 (power), 4 (power), 5 (power), 6 (power), 7 (power), 8 (power), 9 (power), 10 (power), 11 (power), 12 (power), 13 (power), 14 (power)
text: Конт.; Цепь

## PLS-16
designator X?  CommentText: "Разъем"
Manufacturer: Connfly; ValueManufacturerPartNumber: Connector, 16pin, 2.54mm, 500VAC, 3A; PartNumber: PLS-16; TypeConnector: Connector; VoltageMax: 500VAC; Pitch: 2.54mm; CurrentMax: 3A; Multichannel: 16pin; HelpURL: https://www.chipdip.ru/product/pls-16
footprint CON: PLS-16
pins: 1, 2, 3 (power), 4 (power), 5 (power), 6 (power), 7 (power), 8 (power), 9 (power), 10 (power), 11 (power), 12 (power), 13 (power), 14 (power), 15 (power), 16 (power)
text: Конт.; Цепь

## PLS-20
designator X?  CommentText: "Разъем"
Manufacturer: Connfly; ValueManufacturerPartNumber: Connector, 20pin, 2.54mm, 500VAC, 3A; PartNumber: PLS-20; TypeConnector: Connector; VoltageMax: 500VAC; Pitch: 2.54mm; CurrentMax: 3A; Multichannel: 20pin; HelpURL: https://www.chipdip.ru/product/pls-20
footprint CON: PLS-20
pins: 1, 2, 3 (power), 4 (power), 5 (power), 6 (power), 7 (power), 8 (power), 9 (power), 10 (power), 11 (power), 12 (power), 13 (power), 14 (power), 15 (power), 16 (power), 17 (power), 18 (power), 19 (power), 20 (power)
text: Конт.; Цепь

## Solder_Pad
designator X?  (value not drawn)
footprint CON: SolderPad 8*10
pins: 1
text: Конт.; Цепь; конт. площадка под пайку

## Test_Point_Connector
designator XT?
Manufacturer: Keystone; ValueManufacturerPartNumber: Test point, Keystone, 5001; PartNumber: 5001; TypeConnector: Test point; HelpURL: https://www.digikey.com/product-detail/en/keystone-electronics/5001/36-5001-ND/255327
footprint CON: 5000 (Keystone)
footprint CON: 5001 (Keystone)
footprint CON: 5002 (Keystone)
footprint CON: 5004 (Keystone)
footprint CON: 5116 (Keystone)
pins: 1

## Test_Point_Pad
designator XT?  (no BOM)
ValueManufacturerPartNumber: Test point; TypeConnector: Test point
footprint TestPoint-1.5mm
footprint TestPoint-1mm
footprint TestPoint-1mm+hole
pins: 1

## WF-2
designator X?  CommentText: "Разъем"
Manufacturer: Connfly; ValueManufacturerPartNumber: Connector, 2pin, 2.54mm, 250VAC, 3A; PartNumber: WF-2; TypeConnector: Connector; VoltageMax: 250VAC; Pitch: 2.54mm; CurrentMax: 3A; Multichannel: 2pin; HelpURL: https://www.chipdip.ru/product/wf-2
footprint CON: WF-02
pins: 1, 2
text: Конт.; Цепь

## WF-3
designator X?  CommentText: "Разъем"
Manufacturer: Connfly; ValueManufacturerPartNumber: Connector, 3pin, 2.54mm, 250VAC, 3A; PartNumber: WF-3; TypeConnector: Connector; VoltageMax: 250VAC; Pitch: 2.54mm; CurrentMax: 3A; Multichannel: 3pin; HelpURL: https://www.chipdip.ru/product/wf-3
footprint CON: WF-03
pins: 1, 2, 3 (power)
text: Конт.; Цепь

## WF-4
designator X?  CommentText: "Разъем"
Manufacturer: Connfly; ValueManufacturerPartNumber: Connector, 4pin, 2.54mm, 250VAC, 3A; PartNumber: WF-4; TypeConnector: Connector; VoltageMax: 250VAC; Pitch: 2.54mm; CurrentMax: 3A; Multichannel: 4pin; HelpURL: https://www.chipdip.ru/product/wf-4
footprint CON: WF-04
pins: 1, 2, 3 (power), 4 (power)
text: Конт.; Цепь